# Altium integrated library Altera MAX 7000S.IntLib: 338 symbols (part 17 of 20)
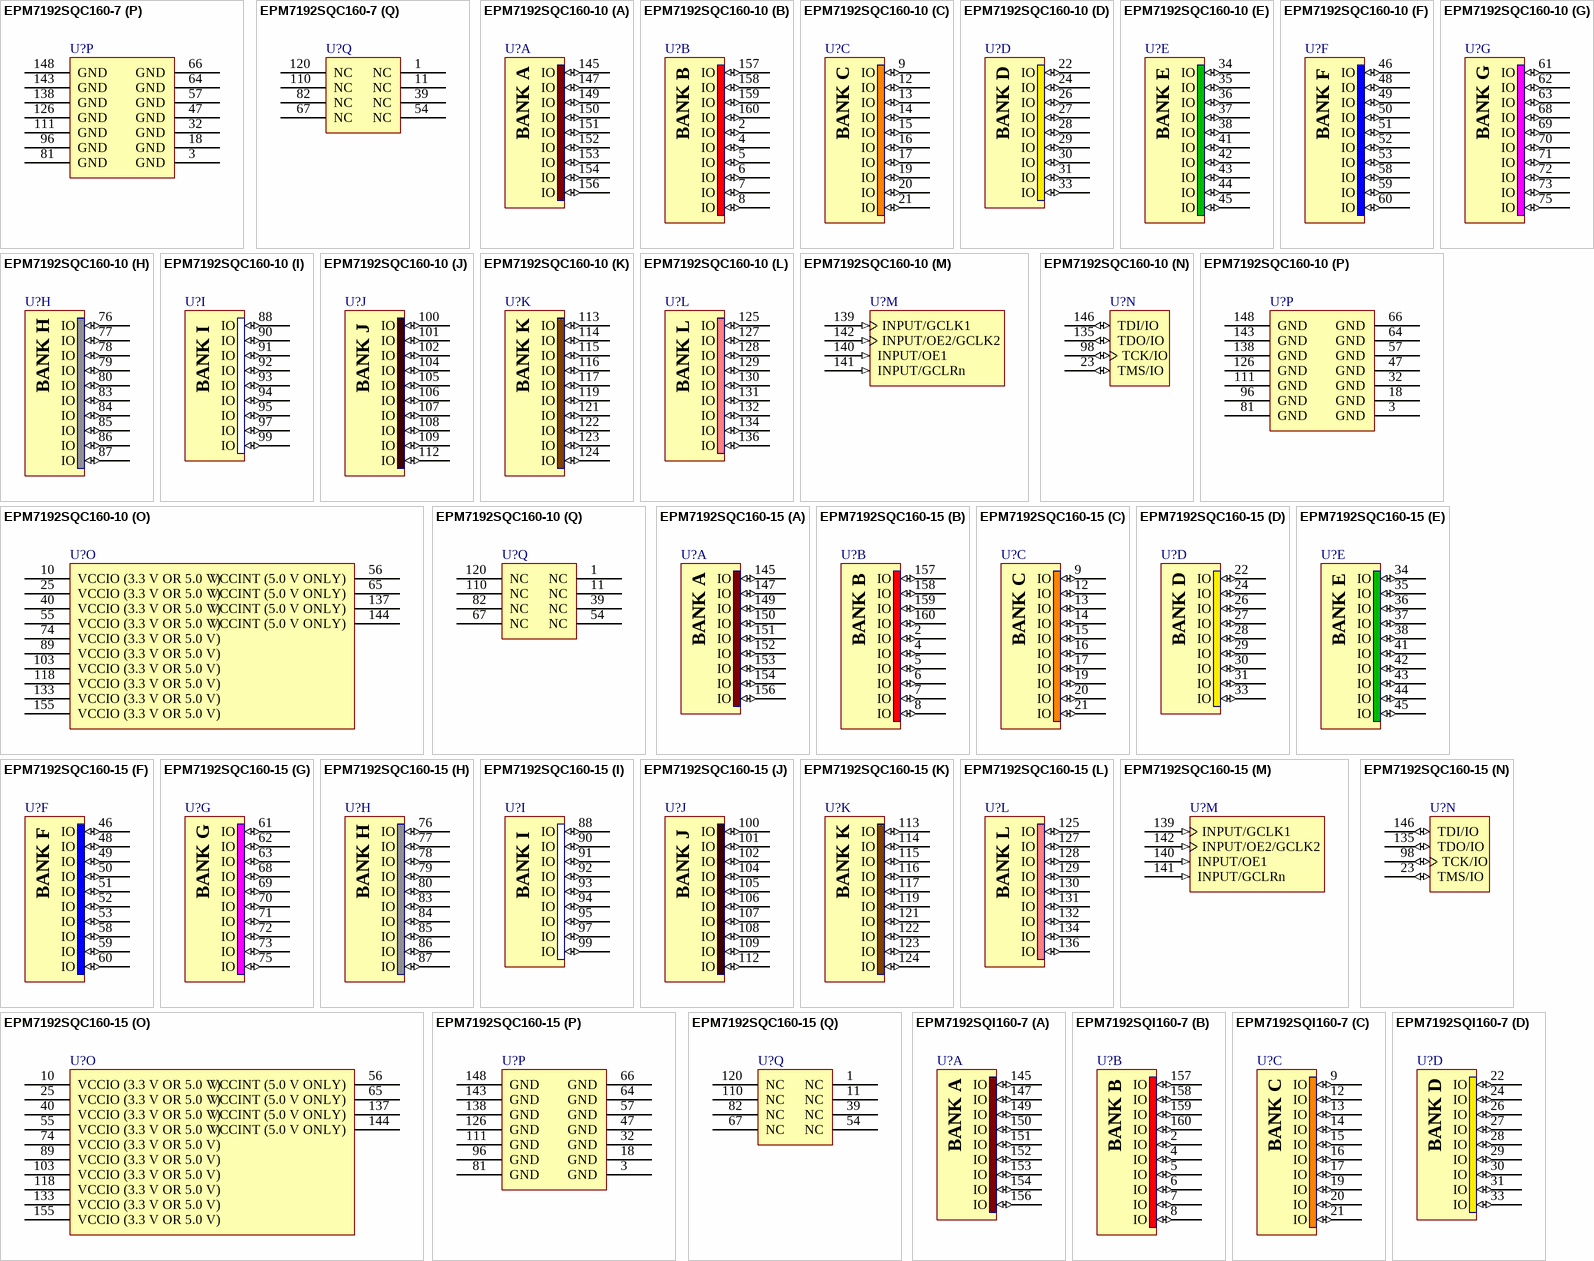
[diagram p120: symbols EPM7192SQC160-7 to EPM7192SQI160-7]

## EPM7192SQC160-15
designator U?
MAX 7000S 5V In-System Programmable CPLD, 192 Macrocells, 160-Pin PQFP, Speed Grade 15, Commercial Grade; Published: 24-Nov-2000; LatestRevisionDate: 13-Apr-2006; LatestRevisionNote: IPC-7351 Footprint Added.; DatasheetVersion: ver6.7, Sep-2005; PackageVersion: ver14.3, Jul-2006; PackageReference: PQFP160; Publisher: Altium Limited; PackageDescription: 160-Pin Plastic Quad Flat Pack (PFQP160); Supplier 1: Digi-Key; Supplier Part Number 1: 544-1216-ND; Code_JEDEC: MS-022-DD-1; Code_IPC: QFP65P3120X3120-160; ComponentLink1Description: Manufacturer Link; ComponentLink1URL: http://www.altera.com/products/devices/max7k/m7k-index.html; ComponentLink2Description: Datasheet; ComponentLink2URL: http://www.altera.com/literature/ds/m7000.pdf; ComponentLink3Description: Packaging Specification; ComponentLink3URL: http://www.altera.com/literature/ds/dspkg.pdf
footprint PQFP160_N (QFP, 160-Leads, Body 28x28mm, Pitch 0.65mm, IPC Medium Density)
footprint PQFP160_L (QFP, 160-Leads, Body 28x28mm, Pitch 0.65mm, IPC High Density)
footprint PQFP160_M (QFP, 160-Leads, Body 28x28mm, Pitch 0.65mm, IPC Low Density)
3D model EPM7192S-PQFP160 (160-Pin Plastic Quad Flat Pack (PFQP160))
signal-integrity model 7k (MAX 7000S)
part A pins: 145 IO (io), 147 IO (io), 149 IO (io), 150 IO (io), 151 IO (io), 152 IO (io), 153 IO (io), 154 IO (io), 156 IO (io)
part B pins: 2 IO (io), 4 IO (io), 5 IO (io), 6 IO (io), 7 IO (io), 8 IO (io), 157 IO (io), 158 IO (io), 159 IO (io), 160 IO (io)
part C pins: 9 IO (io), 12 IO (io), 13 IO (io), 14 IO (io), 15 IO (io), 16 IO (io), 17 IO (io), 19 IO (io), 20 IO (io), 21 IO (io)
part D pins: 22 IO (io), 24 IO (io), 26 IO (io), 27 IO (io), 28 IO (io), 29 IO (io), 30 IO (io), 31 IO (io), 33 IO (io)
part E pins: 34 IO (io), 35 IO (io), 36 IO (io), 37 IO (io), 38 IO (io), 41 IO (io), 42 IO (io), 43 IO (io), 44 IO (io), 45 IO (io)
part F pins: 46 IO (io), 48 IO (io), 49 IO (io), 50 IO (io), 51 IO (io), 52 IO (io), 53 IO (io), 58 IO (io), 59 IO (io), 60 IO (io)
part G pins: 61 IO (io), 62 IO (io), 63 IO (io), 68 IO (io), 69 IO (io), 70 IO (io), 71 IO (io), 72 IO (io), 73 IO (io), 75 IO (io)
part H pins: 76 IO (io), 77 IO (io), 78 IO (io), 79 IO (io), 80 IO (io), 83 IO (io), 84 IO (io), 85 IO (io), 86 IO (io), 87 IO (io)
part I pins: 88 IO (io), 90 IO (io), 91 IO (io), 92 IO (io), 93 IO (io), 94 IO (io), 95 IO (io), 97 IO (io), 99 IO (io)
part J pins: 100 IO (io), 101 IO (io), 102 IO (io), 104 IO (io), 105 IO (io), 106 IO (io), 107 IO (io), 108 IO (io), 109 IO (io), 112 IO (io)
part K pins: 113 IO (io), 114 IO (io), 115 IO (io), 116 IO (io), 117 IO (io), 119 IO (io), 121 IO (io), 122 IO (io), 123 IO (io), 124 IO (io)
part L pins: 125 IO (io), 127 IO (io), 128 IO (io), 129 IO (io), 130 IO (io), 131 IO (io), 132 IO (io), 134 IO (io), 136 IO (io)
part M pins: 139 INPUT/GCLK1 (in), 140 INPUT/OE1 (in), 141 INPUT/GCLRn (in), 142 INPUT/OE2/GCLK2 (in)
part N pins: 23 TMS/IO (io), 98 TCK/IO (io), 135 TDO/IO (io), 146 TDI/IO (io)
part O pins: 10 VCCIO (3.3 V OR 5.0 V) (power), 25 VCCIO (3.3 V OR 5.0 V) (power), 40 VCCIO (3.3 V OR 5.0 V) (power), 55 VCCIO (3.3 V OR 5.0 V) (power), 56 VCCINT (5.0 V ONLY) (power), 65 VCCINT (5.0 V ONLY) (power), 74 VCCIO (3.3 V OR 5.0 V) (power), 89 VCCIO (3.3 V OR 5.0 V) (power), 103 VCCIO (3.3 V OR 5.0 V) (power), 118 VCCIO (3.3 V OR 5.0 V) (power), 133 VCCIO (3.3 V OR 5.0 V) (power), 137 VCCINT (5.0 V ONLY) (power), 144 VCCINT (5.0 V ONLY) (power), 155 VCCIO (3.3 V OR 5.0 V) (power)
part P pins: 3 GND (power), 18 GND (power), 32 GND (power), 47 GND (power), 57 GND (power), 64 GND (power), 66 GND (power), 81 GND (power), 96 GND (power), 111 GND (power), 126 GND (power), 138 GND (power), 143 GND (power), 148 GND (power)
part Q pins: 1 NC, 11 NC, 39 NC, 54 NC, 67 NC, 82 NC, 110 NC, 120 NC
part A text: BANK A
part B text: BANK B
part C text: BANK C
part D text: BANK D
part E text: BANK E
part F text: BANK F
part G text: BANK G
part H text: BANK H
part I text: BANK I
part J text: BANK J
part K text: BANK K
part L text: BANK L

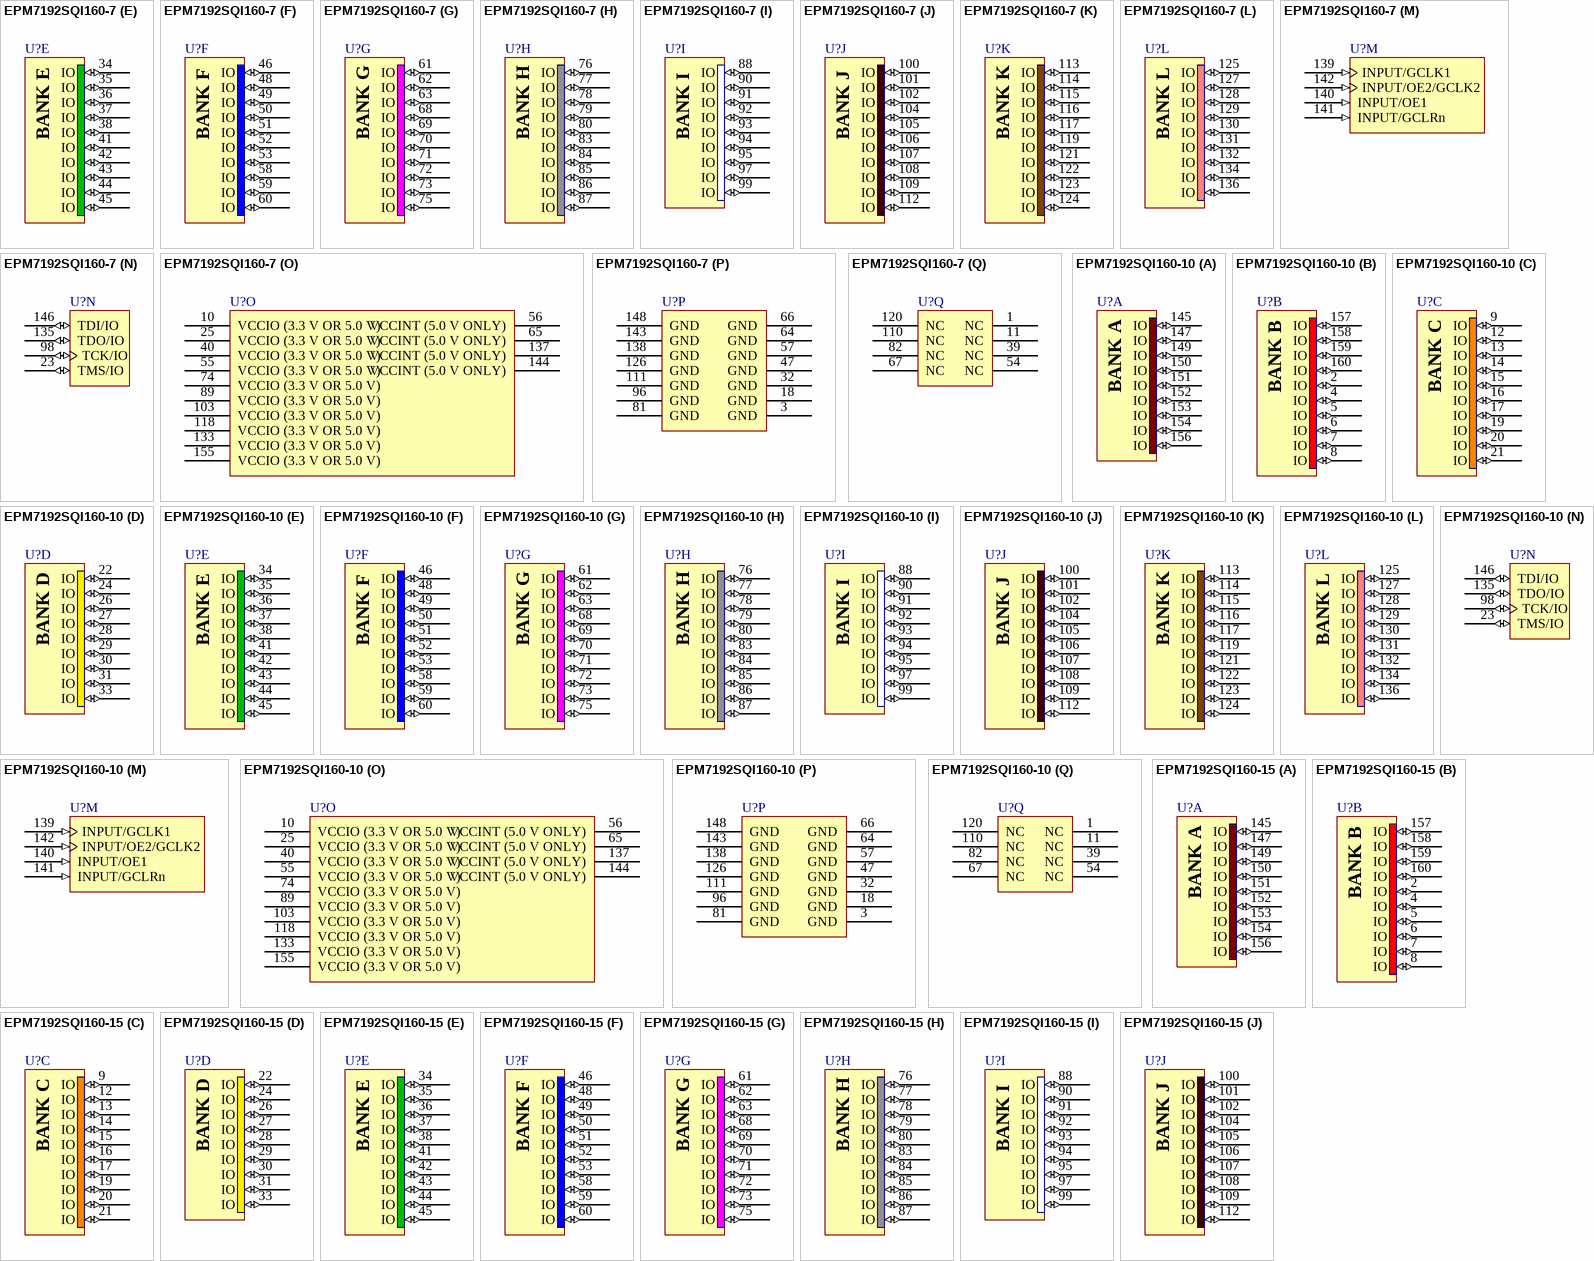
[diagram p85: symbols EPM7192SQI160-7 to EPM7192SQI160-15]

## EPM7192SQI160-7
designator U?
MAX 7000S 5V In-System Programmable CPLD, 192 Macrocells, 160-Pin PQFP, Speed Grade 7, Industrial Grade; Published: 17-Sep-2003; LatestRevisionDate: 13-Apr-2006; LatestRevisionNote: IPC-7351 Footprint Added.; DatasheetVersion: ver6.7, Sep-2005; PackageVersion: ver14.3, Jul-2006; PackageReference: PQFP160; Publisher: Altium Limited; PackageDescription: 160-Pin Plastic Quad Flat Pack (PFQP160); Code_JEDEC: MS-022-DD-1; Code_IPC: QFP65P3120X3120-160; ComponentLink1Description: Manufacturer Link; ComponentLink1URL: http://www.altera.com/products/devices/max7k/m7k-index.html; ComponentLink2Description: Datasheet; ComponentLink2URL: http://www.altera.com/literature/ds/m7000.pdf; ComponentLink3Description: Packaging Specification; ComponentLink3URL: http://www.altera.com/literature/ds/dspkg.pdf
footprint PQFP160_N (QFP, 160-Leads, Body 28x28mm, Pitch 0.65mm, IPC Medium Density)
footprint PQFP160_L (QFP, 160-Leads, Body 28x28mm, Pitch 0.65mm, IPC High Density)
footprint PQFP160_M (QFP, 160-Leads, Body 28x28mm, Pitch 0.65mm, IPC Low Density)
3D model EPM7192S-PQFP160 (160-Pin Plastic Quad Flat Pack (PFQP160))
signal-integrity model 7k (MAX 7000S)
part A pins: 145 IO (io), 147 IO (io), 149 IO (io), 150 IO (io), 151 IO (io), 152 IO (io), 153 IO (io), 154 IO (io), 156 IO (io)
part B pins: 2 IO (io), 4 IO (io), 5 IO (io), 6 IO (io), 7 IO (io), 8 IO (io), 157 IO (io), 158 IO (io), 159 IO (io), 160 IO (io)
part C pins: 9 IO (io), 12 IO (io), 13 IO (io), 14 IO (io), 15 IO (io), 16 IO (io), 17 IO (io), 19 IO (io), 20 IO (io), 21 IO (io)
part D pins: 22 IO (io), 24 IO (io), 26 IO (io), 27 IO (io), 28 IO (io), 29 IO (io), 30 IO (io), 31 IO (io), 33 IO (io)
part E pins: 34 IO (io), 35 IO (io), 36 IO (io), 37 IO (io), 38 IO (io), 41 IO (io), 42 IO (io), 43 IO (io), 44 IO (io), 45 IO (io)
part F pins: 46 IO (io), 48 IO (io), 49 IO (io), 50 IO (io), 51 IO (io), 52 IO (io), 53 IO (io), 58 IO (io), 59 IO (io), 60 IO (io)
part G pins: 61 IO (io), 62 IO (io), 63 IO (io), 68 IO (io), 69 IO (io), 70 IO (io), 71 IO (io), 72 IO (io), 73 IO (io), 75 IO (io)
part H pins: 76 IO (io), 77 IO (io), 78 IO (io), 79 IO (io), 80 IO (io), 83 IO (io), 84 IO (io), 85 IO (io), 86 IO (io), 87 IO (io)
part I pins: 88 IO (io), 90 IO (io), 91 IO (io), 92 IO (io), 93 IO (io), 94 IO (io), 95 IO (io), 97 IO (io), 99 IO (io)
part J pins: 100 IO (io), 101 IO (io), 102 IO (io), 104 IO (io), 105 IO (io), 106 IO (io), 107 IO (io), 108 IO (io), 109 IO (io), 112 IO (io)
part K pins: 113 IO (io), 114 IO (io), 115 IO (io), 116 IO (io), 117 IO (io), 119 IO (io), 121 IO (io), 122 IO (io), 123 IO (io), 124 IO (io)
part L pins: 125 IO (io), 127 IO (io), 128 IO (io), 129 IO (io), 130 IO (io), 131 IO (io), 132 IO (io), 134 IO (io), 136 IO (io)
part M pins: 139 INPUT/GCLK1 (in), 140 INPUT/OE1 (in), 141 INPUT/GCLRn (in), 142 INPUT/OE2/GCLK2 (in)
part N pins: 23 TMS/IO (io), 98 TCK/IO (io), 135 TDO/IO (io), 146 TDI/IO (io)
part O pins: 10 VCCIO (3.3 V OR 5.0 V) (power), 25 VCCIO (3.3 V OR 5.0 V) (power), 40 VCCIO (3.3 V OR 5.0 V) (power), 55 VCCIO (3.3 V OR 5.0 V) (power), 56 VCCINT (5.0 V ONLY) (power), 65 VCCINT (5.0 V ONLY) (power), 74 VCCIO (3.3 V OR 5.0 V) (power), 89 VCCIO (3.3 V OR 5.0 V) (power), 103 VCCIO (3.3 V OR 5.0 V) (power), 118 VCCIO (3.3 V OR 5.0 V) (power), 133 VCCIO (3.3 V OR 5.0 V) (power), 137 VCCINT (5.0 V ONLY) (power), 144 VCCINT (5.0 V ONLY) (power), 155 VCCIO (3.3 V OR 5.0 V) (power)
part P pins: 3 GND (power), 18 GND (power), 32 GND (power), 47 GND (power), 57 GND (power), 64 GND (power), 66 GND (power), 81 GND (power), 96 GND (power), 111 GND (power), 126 GND (power), 138 GND (power), 143 GND (power), 148 GND (power)
part Q pins: 1 NC, 11 NC, 39 NC, 54 NC, 67 NC, 82 NC, 110 NC, 120 NC
part A text: BANK A
part B text: BANK B
part C text: BANK C
part D text: BANK D
part E text: BANK E
part F text: BANK F
part G text: BANK G
part H text: BANK H
part I text: BANK I
part J text: BANK J
part K text: BANK K
part L text: BANK L

## EPM7192SQI160-10
designator U?
MAX 7000S 5V In-System Programmable CPLD, 192 Macrocells, 160-Pin PQFP, Speed Grade 10, Industrial Grade; Published: 17-Jul-2002; LatestRevisionDate: 13-Apr-2006; LatestRevisionNote: IPC-7351 Footprint Added.; DatasheetVersion: ver6.7, Sep-2005; PackageVersion: ver14.3, Jul-2006; PackageReference: PQFP160; Publisher: Altium Limited; PackageDescription: 160-Pin Plastic Quad Flat Pack (PFQP160); Supplier 1: Digi-Key; Supplier Part Number 1: 544-2343-ND; Code_JEDEC: MS-022-DD-1; Code_IPC: QFP65P3120X3120-160; ComponentLink1Description: Manufacturer Link; ComponentLink1URL: http://www.altera.com/products/devices/max7k/m7k-index.html; ComponentLink2Description: Datasheet; ComponentLink2URL: http://www.altera.com/literature/ds/m7000.pdf; ComponentLink3Description: Packaging Specification; ComponentLink3URL: http://www.altera.com/literature/ds/dspkg.pdf
footprint PQFP160_N (QFP, 160-Leads, Body 28x28mm, Pitch 0.65mm, IPC Medium Density)
footprint PQFP160_L (QFP, 160-Leads, Body 28x28mm, Pitch 0.65mm, IPC High Density)
footprint PQFP160_M (QFP, 160-Leads, Body 28x28mm, Pitch 0.65mm, IPC Low Density)
3D model EPM7192S-PQFP160 (160-Pin Plastic Quad Flat Pack (PFQP160))
signal-integrity model 7k (MAX 7000S)
part A pins: 145 IO (io), 147 IO (io), 149 IO (io), 150 IO (io), 151 IO (io), 152 IO (io), 153 IO (io), 154 IO (io), 156 IO (io)
part B pins: 2 IO (io), 4 IO (io), 5 IO (io), 6 IO (io), 7 IO (io), 8 IO (io), 157 IO (io), 158 IO (io), 159 IO (io), 160 IO (io)
part C pins: 9 IO (io), 12 IO (io), 13 IO (io), 14 IO (io), 15 IO (io), 16 IO (io), 17 IO (io), 19 IO (io), 20 IO (io), 21 IO (io)
part D pins: 22 IO (io), 24 IO (io), 26 IO (io), 27 IO (io), 28 IO (io), 29 IO (io), 30 IO (io), 31 IO (io), 33 IO (io)
part E pins: 34 IO (io), 35 IO (io), 36 IO (io), 37 IO (io), 38 IO (io), 41 IO (io), 42 IO (io), 43 IO (io), 44 IO (io), 45 IO (io)
part F pins: 46 IO (io), 48 IO (io), 49 IO (io), 50 IO (io), 51 IO (io), 52 IO (io), 53 IO (io), 58 IO (io), 59 IO (io), 60 IO (io)
part G pins: 61 IO (io), 62 IO (io), 63 IO (io), 68 IO (io), 69 IO (io), 70 IO (io), 71 IO (io), 72 IO (io), 73 IO (io), 75 IO (io)
part H pins: 76 IO (io), 77 IO (io), 78 IO (io), 79 IO (io), 80 IO (io), 83 IO (io), 84 IO (io), 85 IO (io), 86 IO (io), 87 IO (io)
part I pins: 88 IO (io), 90 IO (io), 91 IO (io), 92 IO (io), 93 IO (io), 94 IO (io), 95 IO (io), 97 IO (io), 99 IO (io)
part J pins: 100 IO (io), 101 IO (io), 102 IO (io), 104 IO (io), 105 IO (io), 106 IO (io), 107 IO (io), 108 IO (io), 109 IO (io), 112 IO (io)
part K pins: 113 IO (io), 114 IO (io), 115 IO (io), 116 IO (io), 117 IO (io), 119 IO (io), 121 IO (io), 122 IO (io), 123 IO (io), 124 IO (io)
part L pins: 125 IO (io), 127 IO (io), 128 IO (io), 129 IO (io), 130 IO (io), 131 IO (io), 132 IO (io), 134 IO (io), 136 IO (io)
part M pins: 139 INPUT/GCLK1 (in), 140 INPUT/OE1 (in), 141 INPUT/GCLRn (in), 142 INPUT/OE2/GCLK2 (in)
part N pins: 23 TMS/IO (io), 98 TCK/IO (io), 135 TDO/IO (io), 146 TDI/IO (io)
part O pins: 10 VCCIO (3.3 V OR 5.0 V) (power), 25 VCCIO (3.3 V OR 5.0 V) (power), 40 VCCIO (3.3 V OR 5.0 V) (power), 55 VCCIO (3.3 V OR 5.0 V) (power), 56 VCCINT (5.0 V ONLY) (power), 65 VCCINT (5.0 V ONLY) (power), 74 VCCIO (3.3 V OR 5.0 V) (power), 89 VCCIO (3.3 V OR 5.0 V) (power), 103 VCCIO (3.3 V OR 5.0 V) (power), 118 VCCIO (3.3 V OR 5.0 V) (power), 133 VCCIO (3.3 V OR 5.0 V) (power), 137 VCCINT (5.0 V ONLY) (power), 144 VCCINT (5.0 V ONLY) (power), 155 VCCIO (3.3 V OR 5.0 V) (power)
part P pins: 3 GND (power), 18 GND (power), 32 GND (power), 47 GND (power), 57 GND (power), 64 GND (power), 66 GND (power), 81 GND (power), 96 GND (power), 111 GND (power), 126 GND (power), 138 GND (power), 143 GND (power), 148 GND (power)
part Q pins: 1 NC, 11 NC, 39 NC, 54 NC, 67 NC, 82 NC, 110 NC, 120 NC
part A text: BANK A
part B text: BANK B
part C text: BANK C
part D text: BANK D
part E text: BANK E
part F text: BANK F
part G text: BANK G
part H text: BANK H
part I text: BANK I
part J text: BANK J
part K text: BANK K
part L text: BANK L

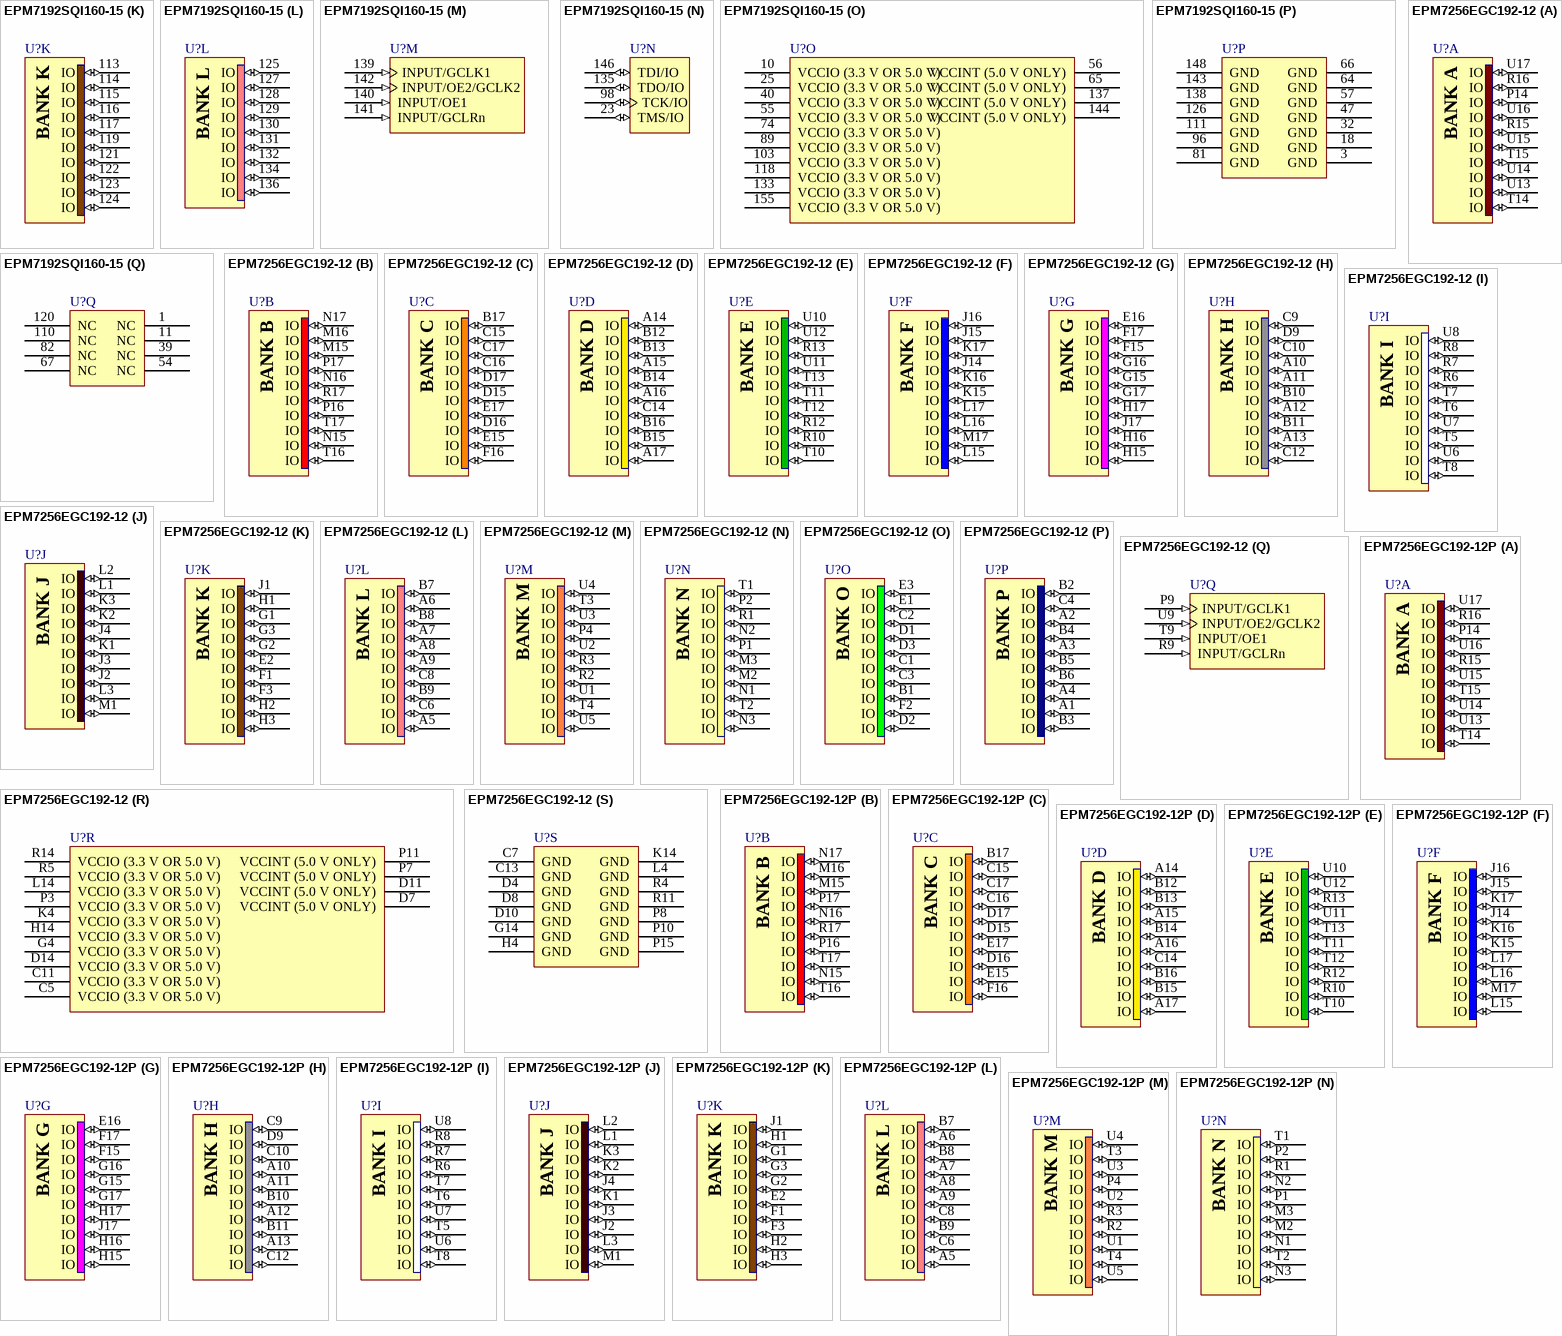
[diagram p86: symbols EPM7192SQI160-15 to EPM7256EGC192-12P]

## EPM7192SQI160-15
designator U?
MAX 7000S 5V In-System Programmable CPLD, 192 Macrocells, 160-Pin PQFP, Speed Grade 15, Industrial Grade; Published: 24-Nov-2000; LatestRevisionDate: 13-Apr-2006; LatestRevisionNote: IPC-7351 Footprint Added.; DatasheetVersion: ver6.7, Sep-2005; PackageVersion: ver14.3, Jul-2006; PackageReference: PQFP160; Publisher: Altium Limited; PackageDescription: 160-Pin Plastic Quad Flat Pack (PFQP160); Code_JEDEC: MS-022-DD-1; Code_IPC: QFP65P3120X3120-160; ComponentLink1Description: Manufacturer Link; ComponentLink1URL: http://www.altera.com/products/devices/max7k/m7k-index.html; ComponentLink2Description: Datasheet; ComponentLink2URL: http://www.altera.com/literature/ds/m7000.pdf; ComponentLink3Description: Packaging Specification; ComponentLink3URL: http://www.altera.com/literature/ds/dspkg.pdf
footprint PQFP160_N (QFP, 160-Leads, Body 28x28mm, Pitch 0.65mm, IPC Medium Density)
footprint PQFP160_L (QFP, 160-Leads, Body 28x28mm, Pitch 0.65mm, IPC High Density)
footprint PQFP160_M (QFP, 160-Leads, Body 28x28mm, Pitch 0.65mm, IPC Low Density)
3D model EPM7192S-PQFP160 (160-Pin Plastic Quad Flat Pack (PFQP160))
signal-integrity model 7k (MAX 7000S)
part A pins: 145 IO (io), 147 IO (io), 149 IO (io), 150 IO (io), 151 IO (io), 152 IO (io), 153 IO (io), 154 IO (io), 156 IO (io)
part B pins: 2 IO (io), 4 IO (io), 5 IO (io), 6 IO (io), 7 IO (io), 8 IO (io), 157 IO (io), 158 IO (io), 159 IO (io), 160 IO (io)
part C pins: 9 IO (io), 12 IO (io), 13 IO (io), 14 IO (io), 15 IO (io), 16 IO (io), 17 IO (io), 19 IO (io), 20 IO (io), 21 IO (io)
part D pins: 22 IO (io), 24 IO (io), 26 IO (io), 27 IO (io), 28 IO (io), 29 IO (io), 30 IO (io), 31 IO (io), 33 IO (io)
part E pins: 34 IO (io), 35 IO (io), 36 IO (io), 37 IO (io), 38 IO (io), 41 IO (io), 42 IO (io), 43 IO (io), 44 IO (io), 45 IO (io)
part F pins: 46 IO (io), 48 IO (io), 49 IO (io), 50 IO (io), 51 IO (io), 52 IO (io), 53 IO (io), 58 IO (io), 59 IO (io), 60 IO (io)
part G pins: 61 IO (io), 62 IO (io), 63 IO (io), 68 IO (io), 69 IO (io), 70 IO (io), 71 IO (io), 72 IO (io), 73 IO (io), 75 IO (io)
part H pins: 76 IO (io), 77 IO (io), 78 IO (io), 79 IO (io), 80 IO (io), 83 IO (io), 84 IO (io), 85 IO (io), 86 IO (io), 87 IO (io)
part I pins: 88 IO (io), 90 IO (io), 91 IO (io), 92 IO (io), 93 IO (io), 94 IO (io), 95 IO (io), 97 IO (io), 99 IO (io)
part J pins: 100 IO (io), 101 IO (io), 102 IO (io), 104 IO (io), 105 IO (io), 106 IO (io), 107 IO (io), 108 IO (io), 109 IO (io), 112 IO (io)
part K pins: 113 IO (io), 114 IO (io), 115 IO (io), 116 IO (io), 117 IO (io), 119 IO (io), 121 IO (io), 122 IO (io), 123 IO (io), 124 IO (io)
part L pins: 125 IO (io), 127 IO (io), 128 IO (io), 129 IO (io), 130 IO (io), 131 IO (io), 132 IO (io), 134 IO (io), 136 IO (io)
part M pins: 139 INPUT/GCLK1 (in), 140 INPUT/OE1 (in), 141 INPUT/GCLRn (in), 142 INPUT/OE2/GCLK2 (in)
part N pins: 23 TMS/IO (io), 98 TCK/IO (io), 135 TDO/IO (io), 146 TDI/IO (io)
part O pins: 10 VCCIO (3.3 V OR 5.0 V) (power), 25 VCCIO (3.3 V OR 5.0 V) (power), 40 VCCIO (3.3 V OR 5.0 V) (power), 55 VCCIO (3.3 V OR 5.0 V) (power), 56 VCCINT (5.0 V ONLY) (power), 65 VCCINT (5.0 V ONLY) (power), 74 VCCIO (3.3 V OR 5.0 V) (power), 89 VCCIO (3.3 V OR 5.0 V) (power), 103 VCCIO (3.3 V OR 5.0 V) (power), 118 VCCIO (3.3 V OR 5.0 V) (power), 133 VCCIO (3.3 V OR 5.0 V) (power), 137 VCCINT (5.0 V ONLY) (power), 144 VCCINT (5.0 V ONLY) (power), 155 VCCIO (3.3 V OR 5.0 V) (power)
part P pins: 3 GND (power), 18 GND (power), 32 GND (power), 47 GND (power), 57 GND (power), 64 GND (power), 66 GND (power), 81 GND (power), 96 GND (power), 111 GND (power), 126 GND (power), 138 GND (power), 143 GND (power), 148 GND (power)
part Q pins: 1 NC, 11 NC, 39 NC, 54 NC, 67 NC, 82 NC, 110 NC, 120 NC
part A text: BANK A
part B text: BANK B
part C text: BANK C
part D text: BANK D
part E text: BANK E
part F text: BANK F
part G text: BANK G
part H text: BANK H
part I text: BANK I
part J text: BANK J
part K text: BANK K
part L text: BANK L

## EPM7256EGC192-12
designator U?
MAX 7000E 5V CPLD, 256 Macrocells, 192-Pin PGA, Speed Grade 12, Commercial Grade; Published: 24-Nov-2000; LatestRevisionDate: 16-Dec-2005; LatestRevisionNote: Banks placed in parts.; DatasheetVersion: ver6.7, Sep-2005; PackageVersion: ver14.3, Jul-2006; PackageReference: PGA192; Publisher: Altium Limited; PackageDescription: 192-Pin Ceramic Pin Grid Array (PGA192); Code_JEDEC: MO-067-AJ; ComponentLink1Description: Manufacturer Link; ComponentLink1URL: http://www.altera.com/products/devices/max7k/m7k-index.html; ComponentLink2Description: Datasheet; ComponentLink2URL: http://www.altera.com/literature/ds/m7000.pdf; ComponentLink3Description: Packaging Specification; ComponentLink3URL: http://www.altera.com/literature/ds/dspkg.pdf
footprint PGA192 (PGA, 192-Leads, Body 44.7x44.7mm, Pitch 2.54mm)
3D model EPM7256E-PGA192 (192-Pin Ceramic Pin Grid Array (PGA192))
signal-integrity model 7k (MAX 7000S)
part A pins: P14 IO (io), R15 IO (io), R16 IO (io), T14 IO (io), T15 IO (io), U13 IO (io), U14 IO (io), U15 IO (io), U16 IO (io), U17 IO (io)
part B pins: M15 IO (io), M16 IO (io), N15 IO (io), N16 IO (io), N17 IO (io), P16 IO (io), P17 IO (io), R17 IO (io), T16 IO (io), T17 IO (io)
part C pins: B17 IO (io), C15 IO (io), C16 IO (io), C17 IO (io), D15 IO (io), D16 IO (io), D17 IO (io), E15 IO (io), E17 IO (io), F16 IO (io)
part D pins: A14 IO (io), A15 IO (io), A16 IO (io), A17 IO (io), B12 IO (io), B13 IO (io), B14 IO (io), B15 IO (io), B16 IO (io), C14 IO (io)
part E pins: R10 IO (io), R12 IO (io), R13 IO (io), T10 IO (io), T11 IO (io), T12 IO (io), T13 IO (io), U10 IO (io), U11 IO (io), U12 IO (io)
part F pins: J14 IO (io), J15 IO (io), J16 IO (io), K15 IO (io), K16 IO (io), K17 IO (io), L15 IO (io), L16 IO (io), L17 IO (io), M17 IO (io)
part G pins: E16 IO (io), F15 IO (io), F17 IO (io), G15 IO (io), G16 IO (io), G17 IO (io), H15 IO (io), H16 IO (io), H17 IO (io), J17 IO (io)
part H pins: A10 IO (io), A11 IO (io), A12 IO (io), A13 IO (io), B10 IO (io), B11 IO (io), C9 IO (io), C10 IO (io), C12 IO (io), D9 IO (io)
part I pins: R6 IO (io), R7 IO (io), R8 IO (io), T5 IO (io), T6 IO (io), T7 IO (io), T8 IO (io), U6 IO (io), U7 IO (io), U8 IO (io)
part J pins: J2 IO (io), J3 IO (io), J4 IO (io), K1 IO (io), K2 IO (io), K3 IO (io), L1 IO (io), L2 IO (io), L3 IO (io), M1 IO (io)
part K pins: E2 IO (io), F1 IO (io), F3 IO (io), G1 IO (io), G2 IO (io), G3 IO (io), H1 IO (io), H2 IO (io), H3 IO (io), J1 IO (io)
part L pins: A5 IO (io), A6 IO (io), A7 IO (io), A8 IO (io), A9 IO (io), B7 IO (io), B8 IO (io), B9 IO (io), C6 IO (io), C8 IO (io)
part M pins: P4 IO (io), R2 IO (io), R3 IO (io), T3 IO (io), T4 IO (io), U1 IO (io), U2 IO (io), U3 IO (io), U4 IO (io), U5 IO (io)
part N pins: M2 IO (io), M3 IO (io), N1 IO (io), N2 IO (io), N3 IO (io), P1 IO (io), P2 IO (io), R1 IO (io), T1 IO (io), T2 IO (io)
part O pins: B1 IO (io), C1 IO (io), C2 IO (io), C3 IO (io), D1 IO (io), D2 IO (io), D3 IO (io), E1 IO (io), E3 IO (io), F2 IO (io)
part P pins: A1 IO (io), A2 IO (io), A3 IO (io), A4 IO (io), B2 IO (io), B3 IO (io), B4 IO (io), B5 IO (io), B6 IO (io), C4 IO (io)
part Q pins: P9 INPUT/GCLK1 (in), R9 INPUT/GCLRn (in), T9 INPUT/OE1 (in), U9 INPUT/OE2/GCLK2 (in)
part R pins: C5 VCCIO (3.3 V OR 5.0 V) (power), C11 VCCIO (3.3 V OR 5.0 V) (power), D7 VCCINT (5.0 V ONLY) (power), D11 VCCINT (5.0 V ONLY) (power), D14 VCCIO (3.3 V OR 5.0 V) (power), G4 VCCIO (3.3 V OR 5.0 V) (power), H14 VCCIO (3.3 V OR 5.0 V) (power), K4 VCCIO (3.3 V OR 5.0 V) (power), L14 VCCIO (3.3 V OR 5.0 V) (power), P3 VCCIO (3.3 V OR 5.0 V) (power), P7 VCCINT (5.0 V ONLY) (power), P11 VCCINT (5.0 V ONLY) (power), R5 VCCIO (3.3 V OR 5.0 V) (power), R14 VCCIO (3.3 V OR 5.0 V) (power)
part S pins: C7 GND (power), C13 GND (power), D4 GND (power), D8 GND (power), D10 GND (power), G14 GND (power), H4 GND (power), K14 GND (power), L4 GND (power), P8 GND (power), P10 GND (power), P15 GND (power), R4 GND (power), R11 GND (power)
part A text: BANK A
part B text: BANK B
part C text: BANK C
part D text: BANK D
part E text: BANK E
part F text: BANK F
part G text: BANK G
part H text: BANK H
part I text: BANK I
part J text: BANK J
part K text: BANK K
part L text: BANK L
part M text: BANK M
part N text: BANK N
part O text: BANK O
part P text: BANK P

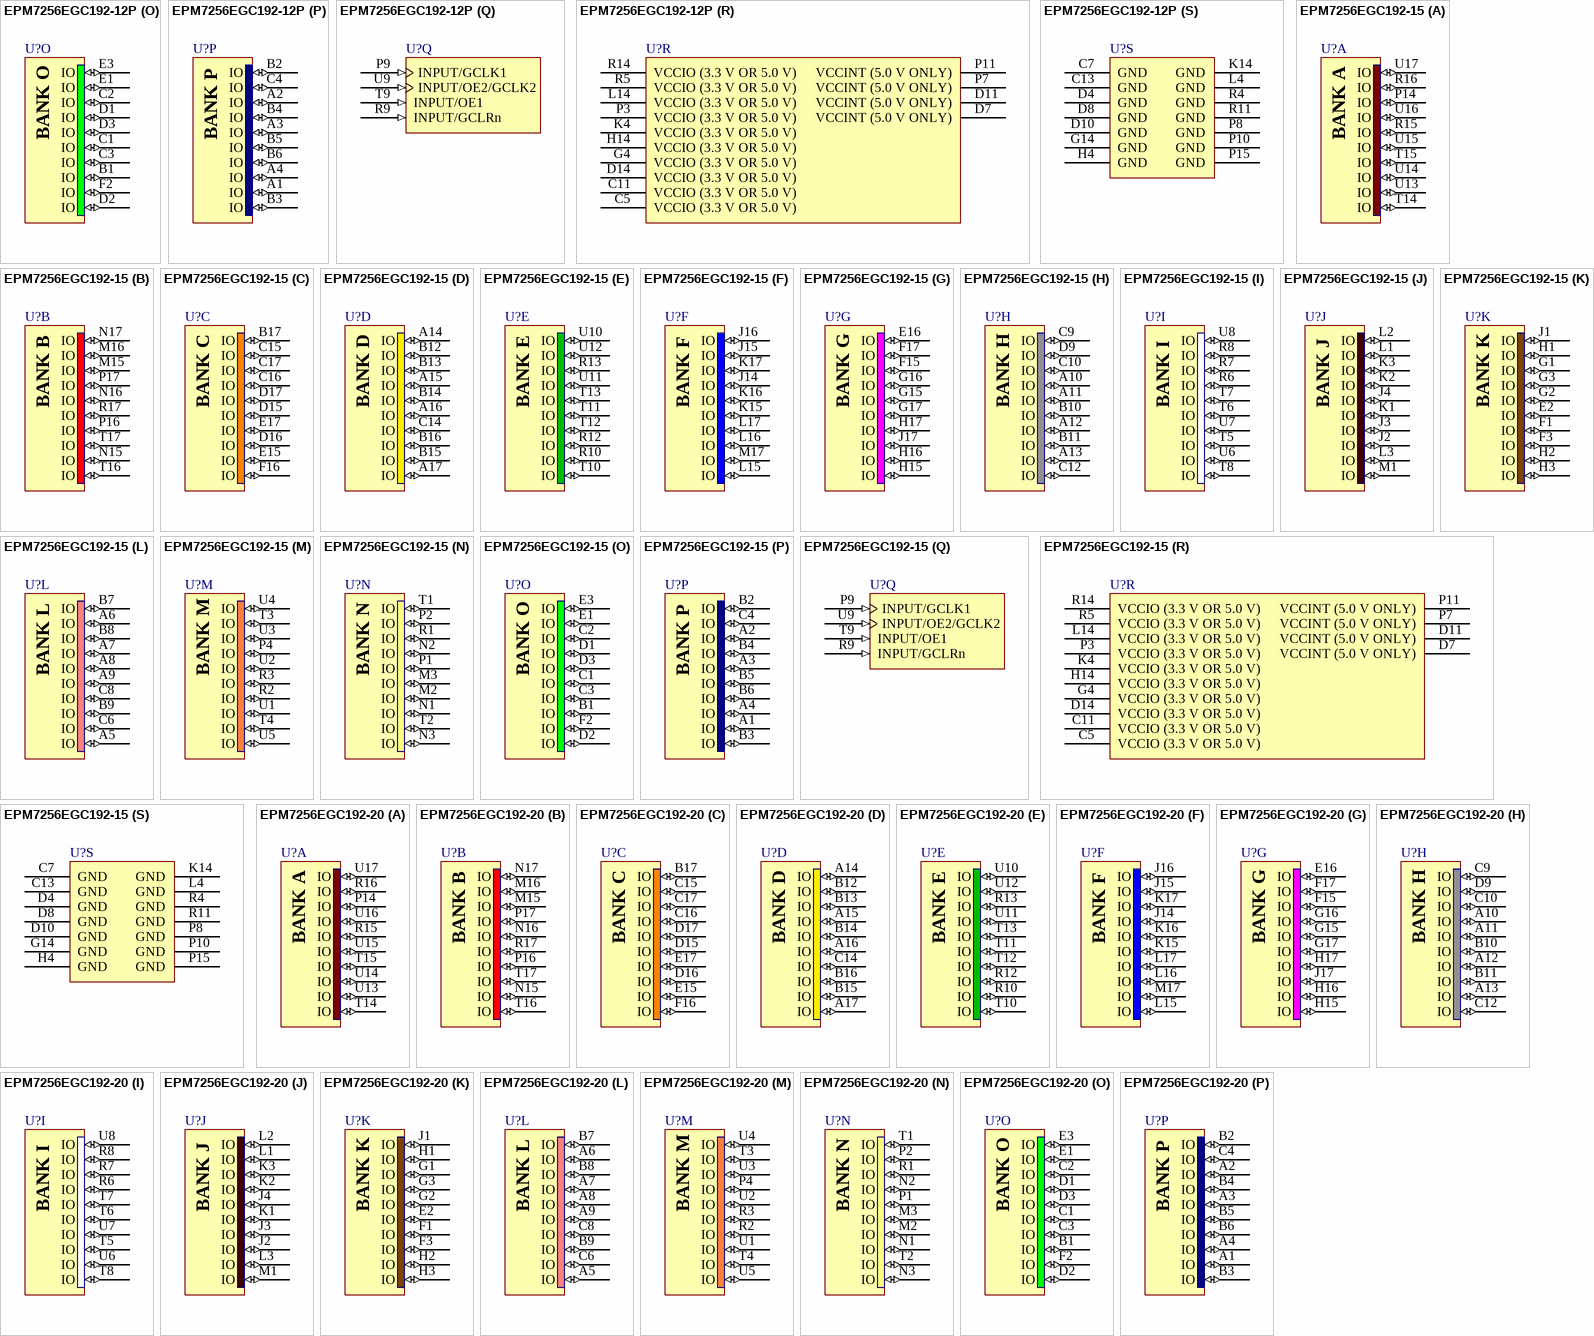
[diagram p87: symbols EPM7256EGC192-12P to EPM7256EGC192-20]

## EPM7256EGC192-12P
designator U?
MAX 7000E 5V CPLD, 256 Macrocells, 192-Pin PGA, Speed Grade 12P, Commercial Grade; Published: 24-Nov-2000; LatestRevisionDate: 16-Dec-2005; LatestRevisionNote: Banks placed in parts.; DatasheetVersion: ver6.7, Sep-2005; PackageVersion: ver14.3, Jul-2006; PackageReference: PGA192; Publisher: Altium Limited; PackageDescription: 192-Pin Ceramic Pin Grid Array (PGA192); Code_JEDEC: MO-067-AJ; ComponentLink1Description: Manufacturer Link; ComponentLink1URL: http://www.altera.com/products/devices/max7k/m7k-index.html; ComponentLink2Description: Datasheet; ComponentLink2URL: http://www.altera.com/literature/ds/m7000.pdf; ComponentLink3Description: Packaging Specification; ComponentLink3URL: http://www.altera.com/literature/ds/dspkg.pdf
footprint PGA192 (PGA, 192-Leads, Body 44.7x44.7mm, Pitch 2.54mm)
3D model EPM7256E-PGA192 (192-Pin Ceramic Pin Grid Array (PGA192))
signal-integrity model 7k (MAX 7000S)
part A pins: P14 IO (io), R15 IO (io), R16 IO (io), T14 IO (io), T15 IO (io), U13 IO (io), U14 IO (io), U15 IO (io), U16 IO (io), U17 IO (io)
part B pins: M15 IO (io), M16 IO (io), N15 IO (io), N16 IO (io), N17 IO (io), P16 IO (io), P17 IO (io), R17 IO (io), T16 IO (io), T17 IO (io)
part C pins: B17 IO (io), C15 IO (io), C16 IO (io), C17 IO (io), D15 IO (io), D16 IO (io), D17 IO (io), E15 IO (io), E17 IO (io), F16 IO (io)
part D pins: A14 IO (io), A15 IO (io), A16 IO (io), A17 IO (io), B12 IO (io), B13 IO (io), B14 IO (io), B15 IO (io), B16 IO (io), C14 IO (io)
part E pins: R10 IO (io), R12 IO (io), R13 IO (io), T10 IO (io), T11 IO (io), T12 IO (io), T13 IO (io), U10 IO (io), U11 IO (io), U12 IO (io)
part F pins: J14 IO (io), J15 IO (io), J16 IO (io), K15 IO (io), K16 IO (io), K17 IO (io), L15 IO (io), L16 IO (io), L17 IO (io), M17 IO (io)
part G pins: E16 IO (io), F15 IO (io), F17 IO (io), G15 IO (io), G16 IO (io), G17 IO (io), H15 IO (io), H16 IO (io), H17 IO (io), J17 IO (io)
part H pins: A10 IO (io), A11 IO (io), A12 IO (io), A13 IO (io), B10 IO (io), B11 IO (io), C9 IO (io), C10 IO (io), C12 IO (io), D9 IO (io)
part I pins: R6 IO (io), R7 IO (io), R8 IO (io), T5 IO (io), T6 IO (io), T7 IO (io), T8 IO (io), U6 IO (io), U7 IO (io), U8 IO (io)
part J pins: J2 IO (io), J3 IO (io), J4 IO (io), K1 IO (io), K2 IO (io), K3 IO (io), L1 IO (io), L2 IO (io), L3 IO (io), M1 IO (io)
part K pins: E2 IO (io), F1 IO (io), F3 IO (io), G1 IO (io), G2 IO (io), G3 IO (io), H1 IO (io), H2 IO (io), H3 IO (io), J1 IO (io)
part L pins: A5 IO (io), A6 IO (io), A7 IO (io), A8 IO (io), A9 IO (io), B7 IO (io), B8 IO (io), B9 IO (io), C6 IO (io), C8 IO (io)
part M pins: P4 IO (io), R2 IO (io), R3 IO (io), T3 IO (io), T4 IO (io), U1 IO (io), U2 IO (io), U3 IO (io), U4 IO (io), U5 IO (io)
part N pins: M2 IO (io), M3 IO (io), N1 IO (io), N2 IO (io), N3 IO (io), P1 IO (io), P2 IO (io), R1 IO (io), T1 IO (io), T2 IO (io)
part O pins: B1 IO (io), C1 IO (io), C2 IO (io), C3 IO (io), D1 IO (io), D2 IO (io), D3 IO (io), E1 IO (io), E3 IO (io), F2 IO (io)
part P pins: A1 IO (io), A2 IO (io), A3 IO (io), A4 IO (io), B2 IO (io), B3 IO (io), B4 IO (io), B5 IO (io), B6 IO (io), C4 IO (io)
part Q pins: P9 INPUT/GCLK1 (in), R9 INPUT/GCLRn (in), T9 INPUT/OE1 (in), U9 INPUT/OE2/GCLK2 (in)
part R pins: C5 VCCIO (3.3 V OR 5.0 V) (power), C11 VCCIO (3.3 V OR 5.0 V) (power), D7 VCCINT (5.0 V ONLY) (power), D11 VCCINT (5.0 V ONLY) (power), D14 VCCIO (3.3 V OR 5.0 V) (power), G4 VCCIO (3.3 V OR 5.0 V) (power), H14 VCCIO (3.3 V OR 5.0 V) (power), K4 VCCIO (3.3 V OR 5.0 V) (power), L14 VCCIO (3.3 V OR 5.0 V) (power), P3 VCCIO (3.3 V OR 5.0 V) (power), P7 VCCINT (5.0 V ONLY) (power), P11 VCCINT (5.0 V ONLY) (power), R5 VCCIO (3.3 V OR 5.0 V) (power), R14 VCCIO (3.3 V OR 5.0 V) (power)
part S pins: C7 GND (power), C13 GND (power), D4 GND (power), D8 GND (power), D10 GND (power), G14 GND (power), H4 GND (power), K14 GND (power), L4 GND (power), P8 GND (power), P10 GND (power), P15 GND (power), R4 GND (power), R11 GND (power)
part A text: BANK A
part B text: BANK B
part C text: BANK C
part D text: BANK D
part E text: BANK E
part F text: BANK F
part G text: BANK G
part H text: BANK H
part I text: BANK I
part J text: BANK J
part K text: BANK K
part L text: BANK L
part M text: BANK M
part N text: BANK N
part O text: BANK O
part P text: BANK P

## EPM7256EGC192-15
designator U?
MAX 7000E 5V CPLD, 256 Macrocells, 192-Pin PGA, Speed Grade 15, Commercial Grade; Published: 24-Nov-2000; LatestRevisionDate: 16-Dec-2005; LatestRevisionNote: Banks placed in parts.; DatasheetVersion: ver6.7, Sep-2005; PackageVersion: ver14.3, Jul-2006; PackageReference: PGA192; Publisher: Altium Limited; PackageDescription: 192-Pin Ceramic Pin Grid Array (PGA192); Code_JEDEC: MO-067-AJ; ComponentLink1Description: Manufacturer Link; ComponentLink1URL: http://www.altera.com/products/devices/max7k/m7k-index.html; ComponentLink2Description: Datasheet; ComponentLink2URL: http://www.altera.com/literature/ds/m7000.pdf; ComponentLink3Description: Packaging Specification; ComponentLink3URL: http://www.altera.com/literature/ds/dspkg.pdf
footprint PGA192 (PGA, 192-Leads, Body 44.7x44.7mm, Pitch 2.54mm)
3D model EPM7256E-PGA192 (192-Pin Ceramic Pin Grid Array (PGA192))
signal-integrity model 7k (MAX 7000S)
part A pins: P14 IO (io), R15 IO (io), R16 IO (io), T14 IO (io), T15 IO (io), U13 IO (io), U14 IO (io), U15 IO (io), U16 IO (io), U17 IO (io)
part B pins: M15 IO (io), M16 IO (io), N15 IO (io), N16 IO (io), N17 IO (io), P16 IO (io), P17 IO (io), R17 IO (io), T16 IO (io), T17 IO (io)
part C pins: B17 IO (io), C15 IO (io), C16 IO (io), C17 IO (io), D15 IO (io), D16 IO (io), D17 IO (io), E15 IO (io), E17 IO (io), F16 IO (io)
part D pins: A14 IO (io), A15 IO (io), A16 IO (io), A17 IO (io), B12 IO (io), B13 IO (io), B14 IO (io), B15 IO (io), B16 IO (io), C14 IO (io)
part E pins: R10 IO (io), R12 IO (io), R13 IO (io), T10 IO (io), T11 IO (io), T12 IO (io), T13 IO (io), U10 IO (io), U11 IO (io), U12 IO (io)
part F pins: J14 IO (io), J15 IO (io), J16 IO (io), K15 IO (io), K16 IO (io), K17 IO (io), L15 IO (io), L16 IO (io), L17 IO (io), M17 IO (io)
part G pins: E16 IO (io), F15 IO (io), F17 IO (io), G15 IO (io), G16 IO (io), G17 IO (io), H15 IO (io), H16 IO (io), H17 IO (io), J17 IO (io)
part H pins: A10 IO (io), A11 IO (io), A12 IO (io), A13 IO (io), B10 IO (io), B11 IO (io), C9 IO (io), C10 IO (io), C12 IO (io), D9 IO (io)
part I pins: R6 IO (io), R7 IO (io), R8 IO (io), T5 IO (io), T6 IO (io), T7 IO (io), T8 IO (io), U6 IO (io), U7 IO (io), U8 IO (io)
part J pins: J2 IO (io), J3 IO (io), J4 IO (io), K1 IO (io), K2 IO (io), K3 IO (io), L1 IO (io), L2 IO (io), L3 IO (io), M1 IO (io)
part K pins: E2 IO (io), F1 IO (io), F3 IO (io), G1 IO (io), G2 IO (io), G3 IO (io), H1 IO (io), H2 IO (io), H3 IO (io), J1 IO (io)
part L pins: A5 IO (io), A6 IO (io), A7 IO (io), A8 IO (io), A9 IO (io), B7 IO (io), B8 IO (io), B9 IO (io), C6 IO (io), C8 IO (io)
part M pins: P4 IO (io), R2 IO (io), R3 IO (io), T3 IO (io), T4 IO (io), U1 IO (io), U2 IO (io), U3 IO (io), U4 IO (io), U5 IO (io)
part N pins: M2 IO (io), M3 IO (io), N1 IO (io), N2 IO (io), N3 IO (io), P1 IO (io), P2 IO (io), R1 IO (io), T1 IO (io), T2 IO (io)
part O pins: B1 IO (io), C1 IO (io), C2 IO (io), C3 IO (io), D1 IO (io), D2 IO (io), D3 IO (io), E1 IO (io), E3 IO (io), F2 IO (io)
part P pins: A1 IO (io), A2 IO (io), A3 IO (io), A4 IO (io), B2 IO (io), B3 IO (io), B4 IO (io), B5 IO (io), B6 IO (io), C4 IO (io)
part Q pins: P9 INPUT/GCLK1 (in), R9 INPUT/GCLRn (in), T9 INPUT/OE1 (in), U9 INPUT/OE2/GCLK2 (in)
part R pins: C5 VCCIO (3.3 V OR 5.0 V) (power), C11 VCCIO (3.3 V OR 5.0 V) (power), D7 VCCINT (5.0 V ONLY) (power), D11 VCCINT (5.0 V ONLY) (power), D14 VCCIO (3.3 V OR 5.0 V) (power), G4 VCCIO (3.3 V OR 5.0 V) (power), H14 VCCIO (3.3 V OR 5.0 V) (power), K4 VCCIO (3.3 V OR 5.0 V) (power), L14 VCCIO (3.3 V OR 5.0 V) (power), P3 VCCIO (3.3 V OR 5.0 V) (power), P7 VCCINT (5.0 V ONLY) (power), P11 VCCINT (5.0 V ONLY) (power), R5 VCCIO (3.3 V OR 5.0 V) (power), R14 VCCIO (3.3 V OR 5.0 V) (power)
part S pins: C7 GND (power), C13 GND (power), D4 GND (power), D8 GND (power), D10 GND (power), G14 GND (power), H4 GND (power), K14 GND (power), L4 GND (power), P8 GND (power), P10 GND (power), P15 GND (power), R4 GND (power), R11 GND (power)
part A text: BANK A
part B text: BANK B
part C text: BANK C
part D text: BANK D
part E text: BANK E
part F text: BANK F
part G text: BANK G
part H text: BANK H
part I text: BANK I
part J text: BANK J
part K text: BANK K
part L text: BANK L
part M text: BANK M
part N text: BANK N
part O text: BANK O
part P text: BANK P

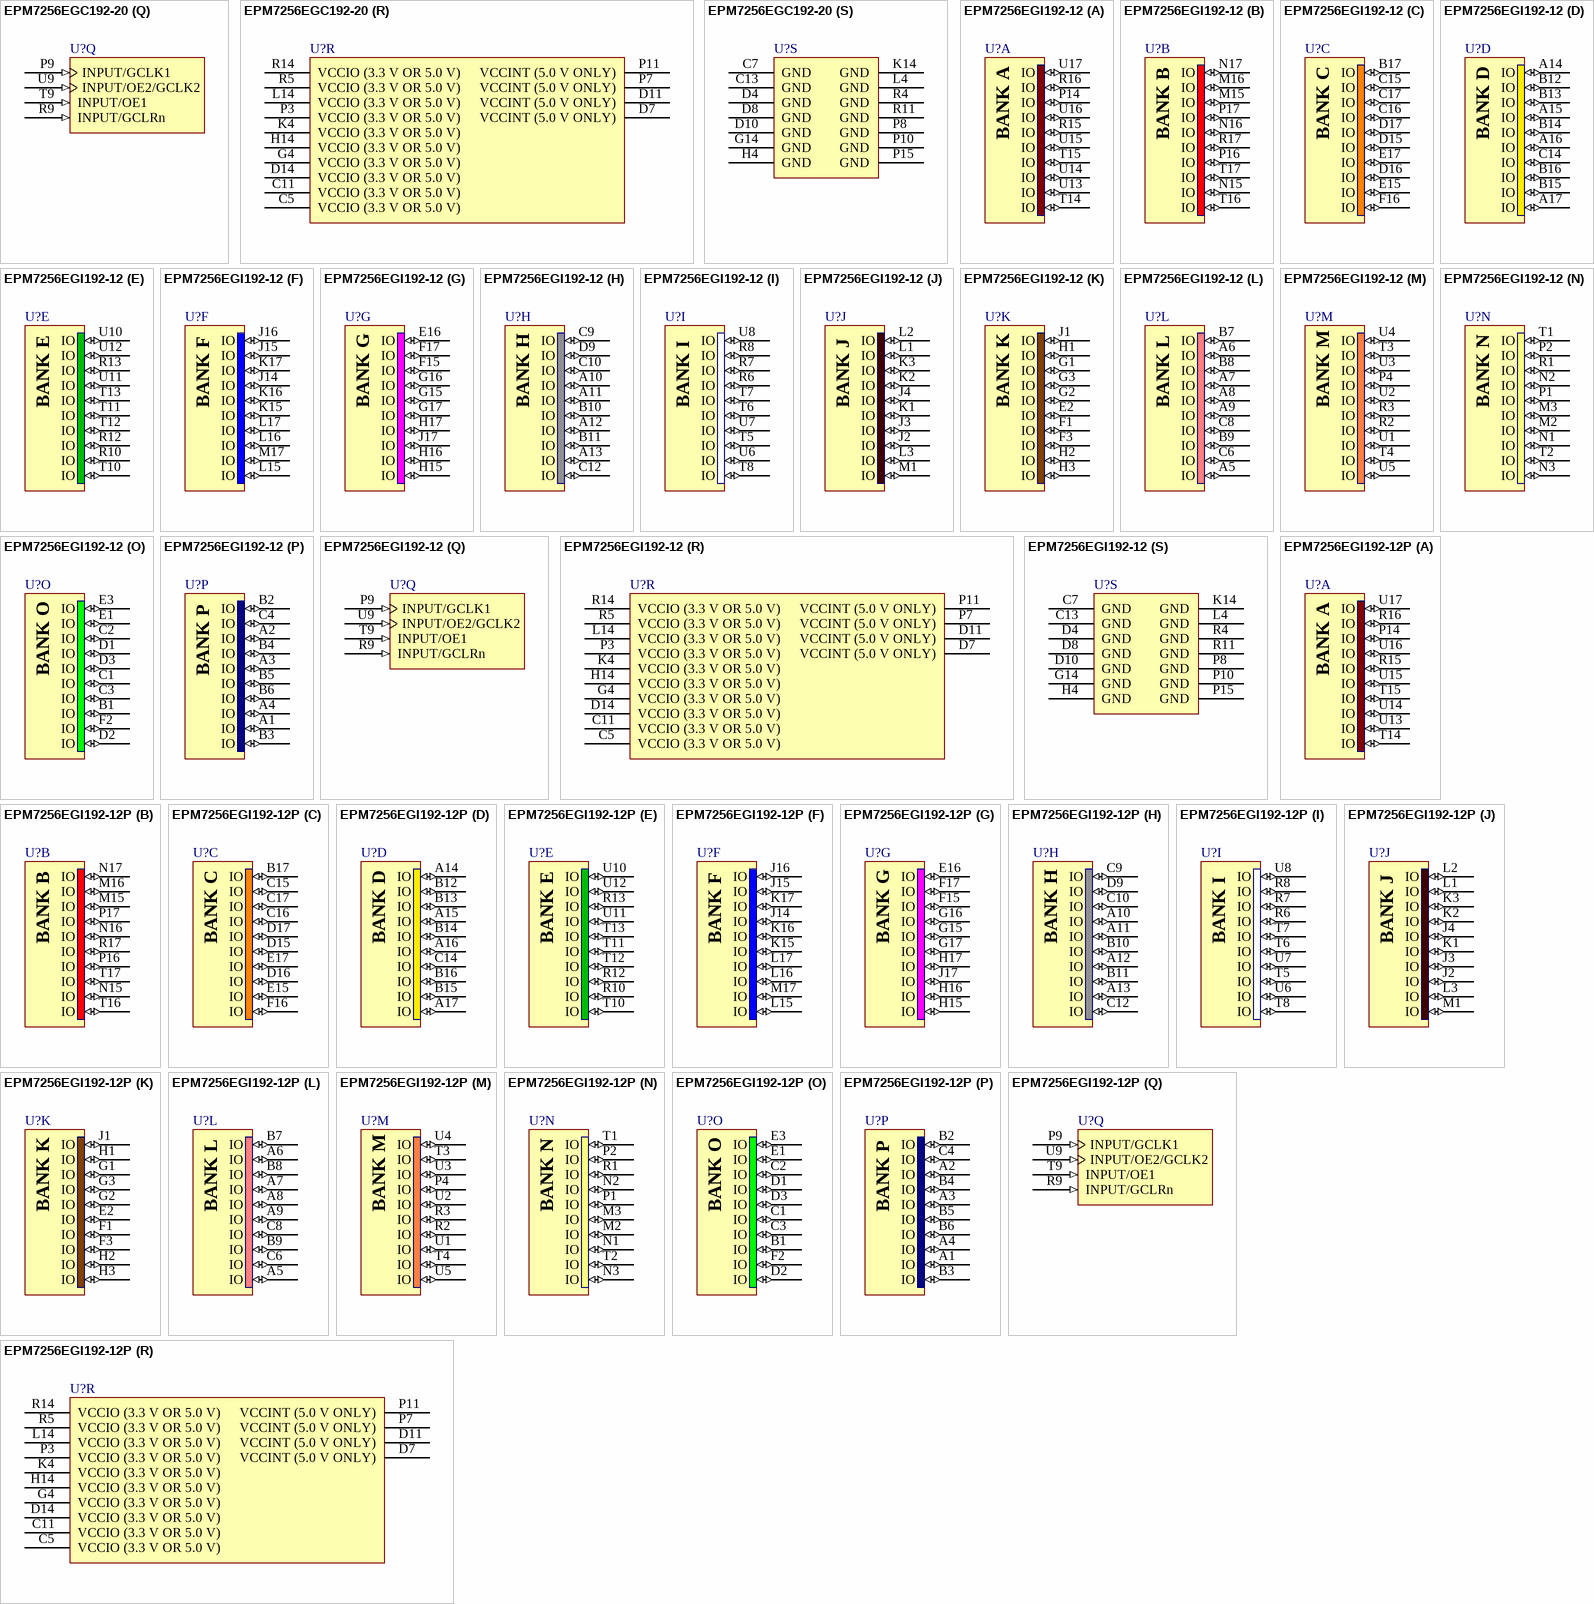
[diagram p88: symbols EPM7256EGC192-20 to EPM7256EGI192-12P]

## EPM7256EGC192-20
designator U?
MAX 7000E 5V CPLD, 256 Macrocells, 192-Pin PGA, Speed Grade 20, Commercial Grade; Published: 24-Nov-2000; LatestRevisionDate: 16-Dec-2005; LatestRevisionNote: Banks placed in parts.; DatasheetVersion: ver6.7, Sep-2005; PackageVersion: ver14.3, Jul-2006; PackageReference: PGA192; Publisher: Altium Limited; PackageDescription: 192-Pin Ceramic Pin Grid Array (PGA192); Code_JEDEC: MO-067-AJ; ComponentLink1Description: Manufacturer Link; ComponentLink1URL: http://www.altera.com/products/devices/max7k/m7k-index.html; ComponentLink2Description: Datasheet; ComponentLink2URL: http://www.altera.com/literature/ds/m7000.pdf; ComponentLink3Description: Packaging Specification; ComponentLink3URL: http://www.altera.com/literature/ds/dspkg.pdf
footprint PGA192 (PGA, 192-Leads, Body 44.7x44.7mm, Pitch 2.54mm)
3D model EPM7256E-PGA192 (192-Pin Ceramic Pin Grid Array (PGA192))
signal-integrity model 7k (MAX 7000S)
part A pins: P14 IO (io), R15 IO (io), R16 IO (io), T14 IO (io), T15 IO (io), U13 IO (io), U14 IO (io), U15 IO (io), U16 IO (io), U17 IO (io)
part B pins: M15 IO (io), M16 IO (io), N15 IO (io), N16 IO (io), N17 IO (io), P16 IO (io), P17 IO (io), R17 IO (io), T16 IO (io), T17 IO (io)
part C pins: B17 IO (io), C15 IO (io), C16 IO (io), C17 IO (io), D15 IO (io), D16 IO (io), D17 IO (io), E15 IO (io), E17 IO (io), F16 IO (io)
part D pins: A14 IO (io), A15 IO (io), A16 IO (io), A17 IO (io), B12 IO (io), B13 IO (io), B14 IO (io), B15 IO (io), B16 IO (io), C14 IO (io)
part E pins: R10 IO (io), R12 IO (io), R13 IO (io), T10 IO (io), T11 IO (io), T12 IO (io), T13 IO (io), U10 IO (io), U11 IO (io), U12 IO (io)
part F pins: J14 IO (io), J15 IO (io), J16 IO (io), K15 IO (io), K16 IO (io), K17 IO (io), L15 IO (io), L16 IO (io), L17 IO (io), M17 IO (io)
part G pins: E16 IO (io), F15 IO (io), F17 IO (io), G15 IO (io), G16 IO (io), G17 IO (io), H15 IO (io), H16 IO (io), H17 IO (io), J17 IO (io)
part H pins: A10 IO (io), A11 IO (io), A12 IO (io), A13 IO (io), B10 IO (io), B11 IO (io), C9 IO (io), C10 IO (io), C12 IO (io), D9 IO (io)
part I pins: R6 IO (io), R7 IO (io), R8 IO (io), T5 IO (io), T6 IO (io), T7 IO (io), T8 IO (io), U6 IO (io), U7 IO (io), U8 IO (io)
part J pins: J2 IO (io), J3 IO (io), J4 IO (io), K1 IO (io), K2 IO (io), K3 IO (io), L1 IO (io), L2 IO (io), L3 IO (io), M1 IO (io)
part K pins: E2 IO (io), F1 IO (io), F3 IO (io), G1 IO (io), G2 IO (io), G3 IO (io), H1 IO (io), H2 IO (io), H3 IO (io), J1 IO (io)
part L pins: A5 IO (io), A6 IO (io), A7 IO (io), A8 IO (io), A9 IO (io), B7 IO (io), B8 IO (io), B9 IO (io), C6 IO (io), C8 IO (io)
part M pins: P4 IO (io), R2 IO (io), R3 IO (io), T3 IO (io), T4 IO (io), U1 IO (io), U2 IO (io), U3 IO (io), U4 IO (io), U5 IO (io)
part N pins: M2 IO (io), M3 IO (io), N1 IO (io), N2 IO (io), N3 IO (io), P1 IO (io), P2 IO (io), R1 IO (io), T1 IO (io), T2 IO (io)
part O pins: B1 IO (io), C1 IO (io), C2 IO (io), C3 IO (io), D1 IO (io), D2 IO (io), D3 IO (io), E1 IO (io), E3 IO (io), F2 IO (io)
part P pins: A1 IO (io), A2 IO (io), A3 IO (io), A4 IO (io), B2 IO (io), B3 IO (io), B4 IO (io), B5 IO (io), B6 IO (io), C4 IO (io)
part Q pins: P9 INPUT/GCLK1 (in), R9 INPUT/GCLRn (in), T9 INPUT/OE1 (in), U9 INPUT/OE2/GCLK2 (in)
part R pins: C5 VCCIO (3.3 V OR 5.0 V) (power), C11 VCCIO (3.3 V OR 5.0 V) (power), D7 VCCINT (5.0 V ONLY) (power), D11 VCCINT (5.0 V ONLY) (power), D14 VCCIO (3.3 V OR 5.0 V) (power), G4 VCCIO (3.3 V OR 5.0 V) (power), H14 VCCIO (3.3 V OR 5.0 V) (power), K4 VCCIO (3.3 V OR 5.0 V) (power), L14 VCCIO (3.3 V OR 5.0 V) (power), P3 VCCIO (3.3 V OR 5.0 V) (power), P7 VCCINT (5.0 V ONLY) (power), P11 VCCINT (5.0 V ONLY) (power), R5 VCCIO (3.3 V OR 5.0 V) (power), R14 VCCIO (3.3 V OR 5.0 V) (power)
part S pins: C7 GND (power), C13 GND (power), D4 GND (power), D8 GND (power), D10 GND (power), G14 GND (power), H4 GND (power), K14 GND (power), L4 GND (power), P8 GND (power), P10 GND (power), P15 GND (power), R4 GND (power), R11 GND (power)
part A text: BANK A
part B text: BANK B
part C text: BANK C
part D text: BANK D
part E text: BANK E
part F text: BANK F
part G text: BANK G
part H text: BANK H
part I text: BANK I
part J text: BANK J
part K text: BANK K
part L text: BANK L
part M text: BANK M
part N text: BANK N
part O text: BANK O
part P text: BANK P

## EPM7256EGI192-12
designator U?
MAX 7000E 5V CPLD, 256 Macrocells, 192-Pin PGA, Speed Grade 12, Industrial Grade; Published: 17-Sep-2003; LatestRevisionDate: 16-Dec-2005; LatestRevisionNote: Banks placed in parts.; DatasheetVersion: ver6.7, Sep-2005; PackageVersion: ver14.3, Jul-2006; PackageReference: PGA192; Publisher: Altium Limited; PackageDescription: 192-Pin Ceramic Pin Grid Array (PGA192); Code_JEDEC: MO-067-AJ; ComponentLink1Description: Manufacturer Link; ComponentLink1URL: http://www.altera.com/products/devices/max7k/m7k-index.html; ComponentLink2Description: Datasheet; ComponentLink2URL: http://www.altera.com/literature/ds/m7000.pdf; ComponentLink3Description: Packaging Specification; ComponentLink3URL: http://www.altera.com/literature/ds/dspkg.pdf
footprint PGA192 (PGA, 192-Leads, Body 44.7x44.7mm, Pitch 2.54mm)
3D model EPM7256E-PGA192 (192-Pin Ceramic Pin Grid Array (PGA192))
signal-integrity model 7k (MAX 7000S)
part A pins: P14 IO (io), R15 IO (io), R16 IO (io), T14 IO (io), T15 IO (io), U13 IO (io), U14 IO (io), U15 IO (io), U16 IO (io), U17 IO (io)
part B pins: M15 IO (io), M16 IO (io), N15 IO (io), N16 IO (io), N17 IO (io), P16 IO (io), P17 IO (io), R17 IO (io), T16 IO (io), T17 IO (io)
part C pins: B17 IO (io), C15 IO (io), C16 IO (io), C17 IO (io), D15 IO (io), D16 IO (io), D17 IO (io), E15 IO (io), E17 IO (io), F16 IO (io)
part D pins: A14 IO (io), A15 IO (io), A16 IO (io), A17 IO (io), B12 IO (io), B13 IO (io), B14 IO (io), B15 IO (io), B16 IO (io), C14 IO (io)
part E pins: R10 IO (io), R12 IO (io), R13 IO (io), T10 IO (io), T11 IO (io), T12 IO (io), T13 IO (io), U10 IO (io), U11 IO (io), U12 IO (io)
part F pins: J14 IO (io), J15 IO (io), J16 IO (io), K15 IO (io), K16 IO (io), K17 IO (io), L15 IO (io), L16 IO (io), L17 IO (io), M17 IO (io)
part G pins: E16 IO (io), F15 IO (io), F17 IO (io), G15 IO (io), G16 IO (io), G17 IO (io), H15 IO (io), H16 IO (io), H17 IO (io), J17 IO (io)
part H pins: A10 IO (io), A11 IO (io), A12 IO (io), A13 IO (io), B10 IO (io), B11 IO (io), C9 IO (io), C10 IO (io), C12 IO (io), D9 IO (io)
part I pins: R6 IO (io), R7 IO (io), R8 IO (io), T5 IO (io), T6 IO (io), T7 IO (io), T8 IO (io), U6 IO (io), U7 IO (io), U8 IO (io)
part J pins: J2 IO (io), J3 IO (io), J4 IO (io), K1 IO (io), K2 IO (io), K3 IO (io), L1 IO (io), L2 IO (io), L3 IO (io), M1 IO (io)
part K pins: E2 IO (io), F1 IO (io), F3 IO (io), G1 IO (io), G2 IO (io), G3 IO (io), H1 IO (io), H2 IO (io), H3 IO (io), J1 IO (io)
part L pins: A5 IO (io), A6 IO (io), A7 IO (io), A8 IO (io), A9 IO (io), B7 IO (io), B8 IO (io), B9 IO (io), C6 IO (io), C8 IO (io)
part M pins: P4 IO (io), R2 IO (io), R3 IO (io), T3 IO (io), T4 IO (io), U1 IO (io), U2 IO (io), U3 IO (io), U4 IO (io), U5 IO (io)
part N pins: M2 IO (io), M3 IO (io), N1 IO (io), N2 IO (io), N3 IO (io), P1 IO (io), P2 IO (io), R1 IO (io), T1 IO (io), T2 IO (io)
part O pins: B1 IO (io), C1 IO (io), C2 IO (io), C3 IO (io), D1 IO (io), D2 IO (io), D3 IO (io), E1 IO (io), E3 IO (io), F2 IO (io)
part P pins: A1 IO (io), A2 IO (io), A3 IO (io), A4 IO (io), B2 IO (io), B3 IO (io), B4 IO (io), B5 IO (io), B6 IO (io), C4 IO (io)
part Q pins: P9 INPUT/GCLK1 (in), R9 INPUT/GCLRn (in), T9 INPUT/OE1 (in), U9 INPUT/OE2/GCLK2 (in)
part R pins: C5 VCCIO (3.3 V OR 5.0 V) (power), C11 VCCIO (3.3 V OR 5.0 V) (power), D7 VCCINT (5.0 V ONLY) (power), D11 VCCINT (5.0 V ONLY) (power), D14 VCCIO (3.3 V OR 5.0 V) (power), G4 VCCIO (3.3 V OR 5.0 V) (power), H14 VCCIO (3.3 V OR 5.0 V) (power), K4 VCCIO (3.3 V OR 5.0 V) (power), L14 VCCIO (3.3 V OR 5.0 V) (power), P3 VCCIO (3.3 V OR 5.0 V) (power), P7 VCCINT (5.0 V ONLY) (power), P11 VCCINT (5.0 V ONLY) (power), R5 VCCIO (3.3 V OR 5.0 V) (power), R14 VCCIO (3.3 V OR 5.0 V) (power)
part S pins: C7 GND (power), C13 GND (power), D4 GND (power), D8 GND (power), D10 GND (power), G14 GND (power), H4 GND (power), K14 GND (power), L4 GND (power), P8 GND (power), P10 GND (power), P15 GND (power), R4 GND (power), R11 GND (power)
part A text: BANK A
part B text: BANK B
part C text: BANK C
part D text: BANK D
part E text: BANK E
part F text: BANK F
part G text: BANK G
part H text: BANK H
part I text: BANK I
part J text: BANK J
part K text: BANK K
part L text: BANK L
part M text: BANK M
part N text: BANK N
part O text: BANK O
part P text: BANK P

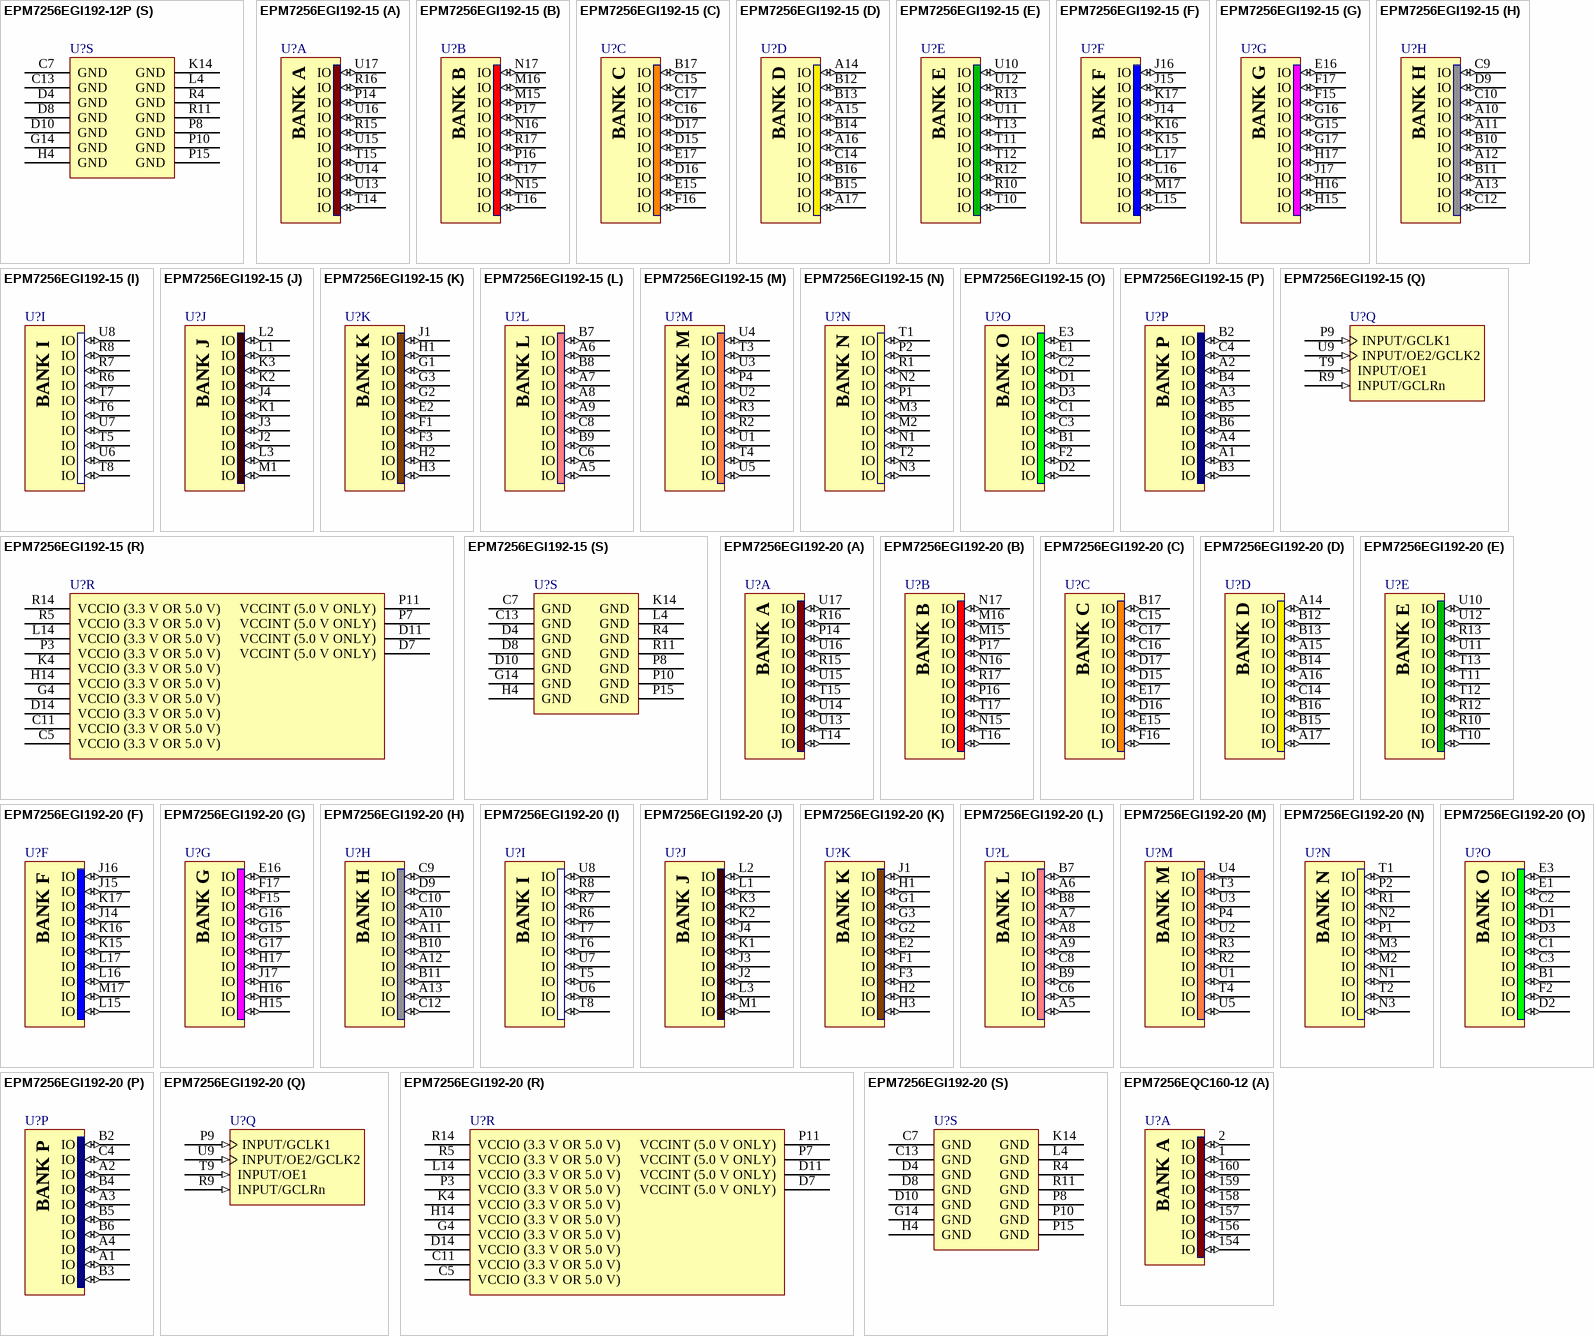
[diagram p89: symbols EPM7256EGI192-12P to EPM7256EQC160-12]

## EPM7256EGI192-12P
designator U?
MAX 7000E 5V CPLD, 256 Macrocells, 192-Pin PGA, Speed Grade 12P, Industrial Grade; Published: 17-Sep-2003; LatestRevisionDate: 16-Dec-2005; LatestRevisionNote: Banks placed in parts.; DatasheetVersion: ver6.7, Sep-2005; PackageVersion: ver14.3, Jul-2006; PackageReference: PGA192; Publisher: Altium Limited; PackageDescription: 192-Pin Ceramic Pin Grid Array (PGA192); Code_JEDEC: MO-067-AJ; ComponentLink1Description: Manufacturer Link; ComponentLink1URL: http://www.altera.com/products/devices/max7k/m7k-index.html; ComponentLink2Description: Datasheet; ComponentLink2URL: http://www.altera.com/literature/ds/m7000.pdf; ComponentLink3Description: Packaging Specification; ComponentLink3URL: http://www.altera.com/literature/ds/dspkg.pdf
footprint PGA192 (PGA, 192-Leads, Body 44.7x44.7mm, Pitch 2.54mm)
3D model EPM7256E-PGA192 (192-Pin Ceramic Pin Grid Array (PGA192))
signal-integrity model 7k (MAX 7000S)
part A pins: P14 IO (io), R15 IO (io), R16 IO (io), T14 IO (io), T15 IO (io), U13 IO (io), U14 IO (io), U15 IO (io), U16 IO (io), U17 IO (io)
part B pins: M15 IO (io), M16 IO (io), N15 IO (io), N16 IO (io), N17 IO (io), P16 IO (io), P17 IO (io), R17 IO (io), T16 IO (io), T17 IO (io)
part C pins: B17 IO (io), C15 IO (io), C16 IO (io), C17 IO (io), D15 IO (io), D16 IO (io), D17 IO (io), E15 IO (io), E17 IO (io), F16 IO (io)
part D pins: A14 IO (io), A15 IO (io), A16 IO (io), A17 IO (io), B12 IO (io), B13 IO (io), B14 IO (io), B15 IO (io), B16 IO (io), C14 IO (io)
part E pins: R10 IO (io), R12 IO (io), R13 IO (io), T10 IO (io), T11 IO (io), T12 IO (io), T13 IO (io), U10 IO (io), U11 IO (io), U12 IO (io)
part F pins: J14 IO (io), J15 IO (io), J16 IO (io), K15 IO (io), K16 IO (io), K17 IO (io), L15 IO (io), L16 IO (io), L17 IO (io), M17 IO (io)
part G pins: E16 IO (io), F15 IO (io), F17 IO (io), G15 IO (io), G16 IO (io), G17 IO (io), H15 IO (io), H16 IO (io), H17 IO (io), J17 IO (io)
part H pins: A10 IO (io), A11 IO (io), A12 IO (io), A13 IO (io), B10 IO (io), B11 IO (io), C9 IO (io), C10 IO (io), C12 IO (io), D9 IO (io)
part I pins: R6 IO (io), R7 IO (io), R8 IO (io), T5 IO (io), T6 IO (io), T7 IO (io), T8 IO (io), U6 IO (io), U7 IO (io), U8 IO (io)
part J pins: J2 IO (io), J3 IO (io), J4 IO (io), K1 IO (io), K2 IO (io), K3 IO (io), L1 IO (io), L2 IO (io), L3 IO (io), M1 IO (io)
part K pins: E2 IO (io), F1 IO (io), F3 IO (io), G1 IO (io), G2 IO (io), G3 IO (io), H1 IO (io), H2 IO (io), H3 IO (io), J1 IO (io)
part L pins: A5 IO (io), A6 IO (io), A7 IO (io), A8 IO (io), A9 IO (io), B7 IO (io), B8 IO (io), B9 IO (io), C6 IO (io), C8 IO (io)
part M pins: P4 IO (io), R2 IO (io), R3 IO (io), T3 IO (io), T4 IO (io), U1 IO (io), U2 IO (io), U3 IO (io), U4 IO (io), U5 IO (io)
part N pins: M2 IO (io), M3 IO (io), N1 IO (io), N2 IO (io), N3 IO (io), P1 IO (io), P2 IO (io), R1 IO (io), T1 IO (io), T2 IO (io)
part O pins: B1 IO (io), C1 IO (io), C2 IO (io), C3 IO (io), D1 IO (io), D2 IO (io), D3 IO (io), E1 IO (io), E3 IO (io), F2 IO (io)
part P pins: A1 IO (io), A2 IO (io), A3 IO (io), A4 IO (io), B2 IO (io), B3 IO (io), B4 IO (io), B5 IO (io), B6 IO (io), C4 IO (io)
part Q pins: P9 INPUT/GCLK1 (in), R9 INPUT/GCLRn (in), T9 INPUT/OE1 (in), U9 INPUT/OE2/GCLK2 (in)
part R pins: C5 VCCIO (3.3 V OR 5.0 V) (power), C11 VCCIO (3.3 V OR 5.0 V) (power), D7 VCCINT (5.0 V ONLY) (power), D11 VCCINT (5.0 V ONLY) (power), D14 VCCIO (3.3 V OR 5.0 V) (power), G4 VCCIO (3.3 V OR 5.0 V) (power), H14 VCCIO (3.3 V OR 5.0 V) (power), K4 VCCIO (3.3 V OR 5.0 V) (power), L14 VCCIO (3.3 V OR 5.0 V) (power), P3 VCCIO (3.3 V OR 5.0 V) (power), P7 VCCINT (5.0 V ONLY) (power), P11 VCCINT (5.0 V ONLY) (power), R5 VCCIO (3.3 V OR 5.0 V) (power), R14 VCCIO (3.3 V OR 5.0 V) (power)
part S pins: C7 GND (power), C13 GND (power), D4 GND (power), D8 GND (power), D10 GND (power), G14 GND (power), H4 GND (power), K14 GND (power), L4 GND (power), P8 GND (power), P10 GND (power), P15 GND (power), R4 GND (power), R11 GND (power)
part A text: BANK A
part B text: BANK B
part C text: BANK C
part D text: BANK D
part E text: BANK E
part F text: BANK F
part G text: BANK G
part H text: BANK H
part I text: BANK I
part J text: BANK J
part K text: BANK K
part L text: BANK L
part M text: BANK M
part N text: BANK N
part O text: BANK O
part P text: BANK P

## EPM7256EGI192-15
designator U?
MAX 7000E 5V CPLD, 256 Macrocells, 192-Pin PGA, Speed Grade 15, Industrial Grade; Published: 24-Nov-2000; LatestRevisionDate: 16-Dec-2005; LatestRevisionNote: Banks placed in parts.; DatasheetVersion: ver6.7, Sep-2005; PackageVersion: ver14.3, Jul-2006; PackageReference: PGA192; Publisher: Altium Limited; PackageDescription: 192-Pin Ceramic Pin Grid Array (PGA192); Code_JEDEC: MO-067-AJ; ComponentLink1Description: Manufacturer Link; ComponentLink1URL: http://www.altera.com/products/devices/max7k/m7k-index.html; ComponentLink2Description: Datasheet; ComponentLink2URL: http://www.altera.com/literature/ds/m7000.pdf; ComponentLink3Description: Packaging Specification; ComponentLink3URL: http://www.altera.com/literature/ds/dspkg.pdf
footprint PGA192 (PGA, 192-Leads, Body 44.7x44.7mm, Pitch 2.54mm)
3D model EPM7256E-PGA192 (192-Pin Ceramic Pin Grid Array (PGA192))
signal-integrity model 7k (MAX 7000S)
part A pins: P14 IO (io), R15 IO (io), R16 IO (io), T14 IO (io), T15 IO (io), U13 IO (io), U14 IO (io), U15 IO (io), U16 IO (io), U17 IO (io)
part B pins: M15 IO (io), M16 IO (io), N15 IO (io), N16 IO (io), N17 IO (io), P16 IO (io), P17 IO (io), R17 IO (io), T16 IO (io), T17 IO (io)
part C pins: B17 IO (io), C15 IO (io), C16 IO (io), C17 IO (io), D15 IO (io), D16 IO (io), D17 IO (io), E15 IO (io), E17 IO (io), F16 IO (io)
part D pins: A14 IO (io), A15 IO (io), A16 IO (io), A17 IO (io), B12 IO (io), B13 IO (io), B14 IO (io), B15 IO (io), B16 IO (io), C14 IO (io)
part E pins: R10 IO (io), R12 IO (io), R13 IO (io), T10 IO (io), T11 IO (io), T12 IO (io), T13 IO (io), U10 IO (io), U11 IO (io), U12 IO (io)
part F pins: J14 IO (io), J15 IO (io), J16 IO (io), K15 IO (io), K16 IO (io), K17 IO (io), L15 IO (io), L16 IO (io), L17 IO (io), M17 IO (io)
part G pins: E16 IO (io), F15 IO (io), F17 IO (io), G15 IO (io), G16 IO (io), G17 IO (io), H15 IO (io), H16 IO (io), H17 IO (io), J17 IO (io)
part H pins: A10 IO (io), A11 IO (io), A12 IO (io), A13 IO (io), B10 IO (io), B11 IO (io), C9 IO (io), C10 IO (io), C12 IO (io), D9 IO (io)
part I pins: R6 IO (io), R7 IO (io), R8 IO (io), T5 IO (io), T6 IO (io), T7 IO (io), T8 IO (io), U6 IO (io), U7 IO (io), U8 IO (io)
part J pins: J2 IO (io), J3 IO (io), J4 IO (io), K1 IO (io), K2 IO (io), K3 IO (io), L1 IO (io), L2 IO (io), L3 IO (io), M1 IO (io)
part K pins: E2 IO (io), F1 IO (io), F3 IO (io), G1 IO (io), G2 IO (io), G3 IO (io), H1 IO (io), H2 IO (io), H3 IO (io), J1 IO (io)
part L pins: A5 IO (io), A6 IO (io), A7 IO (io), A8 IO (io), A9 IO (io), B7 IO (io), B8 IO (io), B9 IO (io), C6 IO (io), C8 IO (io)
part M pins: P4 IO (io), R2 IO (io), R3 IO (io), T3 IO (io), T4 IO (io), U1 IO (io), U2 IO (io), U3 IO (io), U4 IO (io), U5 IO (io)
part N pins: M2 IO (io), M3 IO (io), N1 IO (io), N2 IO (io), N3 IO (io), P1 IO (io), P2 IO (io), R1 IO (io), T1 IO (io), T2 IO (io)
part O pins: B1 IO (io), C1 IO (io), C2 IO (io), C3 IO (io), D1 IO (io), D2 IO (io), D3 IO (io), E1 IO (io), E3 IO (io), F2 IO (io)
part P pins: A1 IO (io), A2 IO (io), A3 IO (io), A4 IO (io), B2 IO (io), B3 IO (io), B4 IO (io), B5 IO (io), B6 IO (io), C4 IO (io)
part Q pins: P9 INPUT/GCLK1 (in), R9 INPUT/GCLRn (in), T9 INPUT/OE1 (in), U9 INPUT/OE2/GCLK2 (in)
part R pins: C5 VCCIO (3.3 V OR 5.0 V) (power), C11 VCCIO (3.3 V OR 5.0 V) (power), D7 VCCINT (5.0 V ONLY) (power), D11 VCCINT (5.0 V ONLY) (power), D14 VCCIO (3.3 V OR 5.0 V) (power), G4 VCCIO (3.3 V OR 5.0 V) (power), H14 VCCIO (3.3 V OR 5.0 V) (power), K4 VCCIO (3.3 V OR 5.0 V) (power), L14 VCCIO (3.3 V OR 5.0 V) (power), P3 VCCIO (3.3 V OR 5.0 V) (power), P7 VCCINT (5.0 V ONLY) (power), P11 VCCINT (5.0 V ONLY) (power), R5 VCCIO (3.3 V OR 5.0 V) (power), R14 VCCIO (3.3 V OR 5.0 V) (power)
part S pins: C7 GND (power), C13 GND (power), D4 GND (power), D8 GND (power), D10 GND (power), G14 GND (power), H4 GND (power), K14 GND (power), L4 GND (power), P8 GND (power), P10 GND (power), P15 GND (power), R4 GND (power), R11 GND (power)
part A text: BANK A
part B text: BANK B
part C text: BANK C
part D text: BANK D
part E text: BANK E
part F text: BANK F
part G text: BANK G
part H text: BANK H
part I text: BANK I
part J text: BANK J
part K text: BANK K
part L text: BANK L
part M text: BANK M
part N text: BANK N
part O text: BANK O
part P text: BANK P

## EPM7256EGI192-20
designator U?
MAX 7000E 5V CPLD, 256 Macrocells, 192-Pin PGA, Speed Grade 20, Industrial Grade; Published: 24-Nov-2000; LatestRevisionDate: 16-Dec-2005; LatestRevisionNote: Banks placed in parts.; DatasheetVersion: ver6.7, Sep-2005; PackageVersion: ver14.3, Jul-2006; PackageReference: PGA192; Publisher: Altium Limited; PackageDescription: 192-Pin Ceramic Pin Grid Array (PGA192); Supplier 1: Digi-Key; Supplier Part Number 1: 544-2356-ND; Code_JEDEC: MO-067-AJ; ComponentLink1Description: Manufacturer Link; ComponentLink1URL: http://www.altera.com/products/devices/max7k/m7k-index.html; ComponentLink2Description: Datasheet; ComponentLink2URL: http://www.altera.com/literature/ds/m7000.pdf; ComponentLink3Description: Packaging Specification; ComponentLink3URL: http://www.altera.com/literature/ds/dspkg.pdf
footprint PGA192 (PGA, 192-Leads, Body 44.7x44.7mm, Pitch 2.54mm)
3D model EPM7256E-PGA192 (192-Pin Ceramic Pin Grid Array (PGA192))
signal-integrity model 7k (MAX 7000S)
part A pins: P14 IO (io), R15 IO (io), R16 IO (io), T14 IO (io), T15 IO (io), U13 IO (io), U14 IO (io), U15 IO (io), U16 IO (io), U17 IO (io)
part B pins: M15 IO (io), M16 IO (io), N15 IO (io), N16 IO (io), N17 IO (io), P16 IO (io), P17 IO (io), R17 IO (io), T16 IO (io), T17 IO (io)
part C pins: B17 IO (io), C15 IO (io), C16 IO (io), C17 IO (io), D15 IO (io), D16 IO (io), D17 IO (io), E15 IO (io), E17 IO (io), F16 IO (io)
part D pins: A14 IO (io), A15 IO (io), A16 IO (io), A17 IO (io), B12 IO (io), B13 IO (io), B14 IO (io), B15 IO (io), B16 IO (io), C14 IO (io)
part E pins: R10 IO (io), R12 IO (io), R13 IO (io), T10 IO (io), T11 IO (io), T12 IO (io), T13 IO (io), U10 IO (io), U11 IO (io), U12 IO (io)
part F pins: J14 IO (io), J15 IO (io), J16 IO (io), K15 IO (io), K16 IO (io), K17 IO (io), L15 IO (io), L16 IO (io), L17 IO (io), M17 IO (io)
part G pins: E16 IO (io), F15 IO (io), F17 IO (io), G15 IO (io), G16 IO (io), G17 IO (io), H15 IO (io), H16 IO (io), H17 IO (io), J17 IO (io)
part H pins: A10 IO (io), A11 IO (io), A12 IO (io), A13 IO (io), B10 IO (io), B11 IO (io), C9 IO (io), C10 IO (io), C12 IO (io), D9 IO (io)
part I pins: R6 IO (io), R7 IO (io), R8 IO (io), T5 IO (io), T6 IO (io), T7 IO (io), T8 IO (io), U6 IO (io), U7 IO (io), U8 IO (io)
part J pins: J2 IO (io), J3 IO (io), J4 IO (io), K1 IO (io), K2 IO (io), K3 IO (io), L1 IO (io), L2 IO (io), L3 IO (io), M1 IO (io)
part K pins: E2 IO (io), F1 IO (io), F3 IO (io), G1 IO (io), G2 IO (io), G3 IO (io), H1 IO (io), H2 IO (io), H3 IO (io), J1 IO (io)
part L pins: A5 IO (io), A6 IO (io), A7 IO (io), A8 IO (io), A9 IO (io), B7 IO (io), B8 IO (io), B9 IO (io), C6 IO (io), C8 IO (io)
part M pins: P4 IO (io), R2 IO (io), R3 IO (io), T3 IO (io), T4 IO (io), U1 IO (io), U2 IO (io), U3 IO (io), U4 IO (io), U5 IO (io)
part N pins: M2 IO (io), M3 IO (io), N1 IO (io), N2 IO (io), N3 IO (io), P1 IO (io), P2 IO (io), R1 IO (io), T1 IO (io), T2 IO (io)
part O pins: B1 IO (io), C1 IO (io), C2 IO (io), C3 IO (io), D1 IO (io), D2 IO (io), D3 IO (io), E1 IO (io), E3 IO (io), F2 IO (io)
part P pins: A1 IO (io), A2 IO (io), A3 IO (io), A4 IO (io), B2 IO (io), B3 IO (io), B4 IO (io), B5 IO (io), B6 IO (io), C4 IO (io)
part Q pins: P9 INPUT/GCLK1 (in), R9 INPUT/GCLRn (in), T9 INPUT/OE1 (in), U9 INPUT/OE2/GCLK2 (in)
part R pins: C5 VCCIO (3.3 V OR 5.0 V) (power), C11 VCCIO (3.3 V OR 5.0 V) (power), D7 VCCINT (5.0 V ONLY) (power), D11 VCCINT (5.0 V ONLY) (power), D14 VCCIO (3.3 V OR 5.0 V) (power), G4 VCCIO (3.3 V OR 5.0 V) (power), H14 VCCIO (3.3 V OR 5.0 V) (power), K4 VCCIO (3.3 V OR 5.0 V) (power), L14 VCCIO (3.3 V OR 5.0 V) (power), P3 VCCIO (3.3 V OR 5.0 V) (power), P7 VCCINT (5.0 V ONLY) (power), P11 VCCINT (5.0 V ONLY) (power), R5 VCCIO (3.3 V OR 5.0 V) (power), R14 VCCIO (3.3 V OR 5.0 V) (power)
part S pins: C7 GND (power), C13 GND (power), D4 GND (power), D8 GND (power), D10 GND (power), G14 GND (power), H4 GND (power), K14 GND (power), L4 GND (power), P8 GND (power), P10 GND (power), P15 GND (power), R4 GND (power), R11 GND (power)
part A text: BANK A
part B text: BANK B
part C text: BANK C
part D text: BANK D
part E text: BANK E
part F text: BANK F
part G text: BANK G
part H text: BANK H
part I text: BANK I
part J text: BANK J
part K text: BANK K
part L text: BANK L
part M text: BANK M
part N text: BANK N
part O text: BANK O
part P text: BANK P

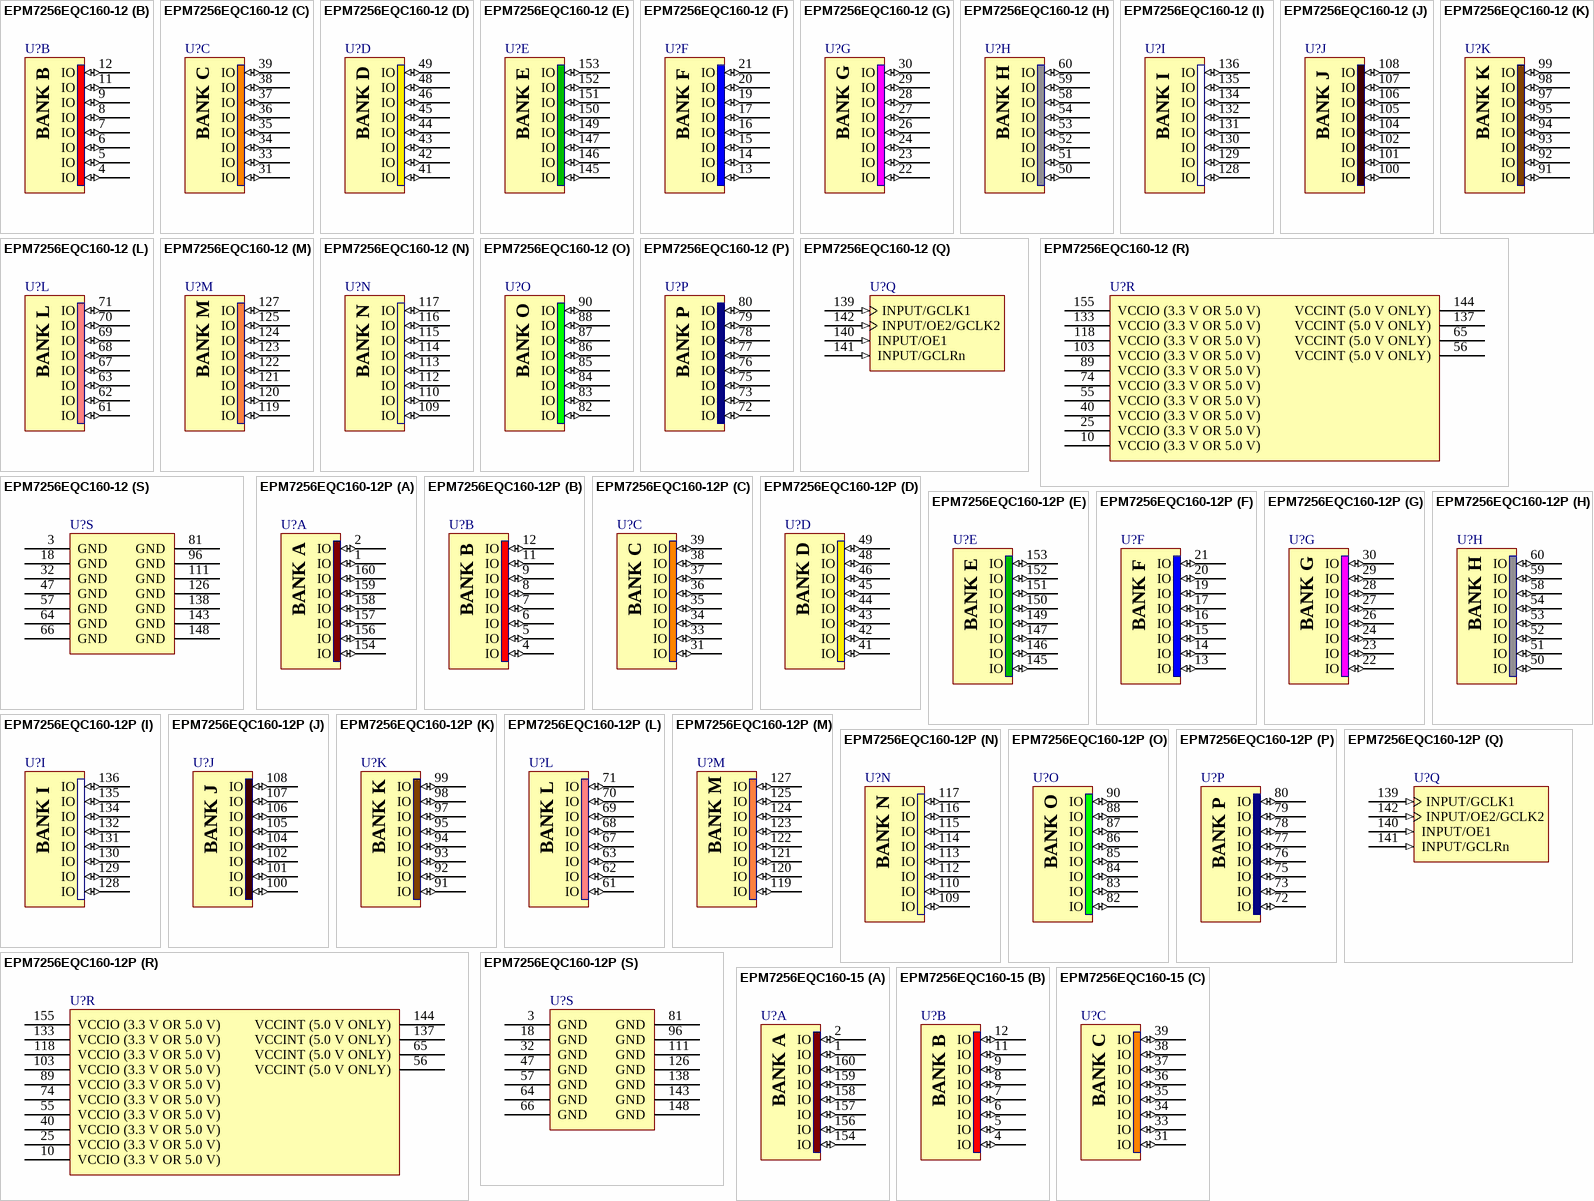
[diagram p90: symbols EPM7256EQC160-12 to EPM7256EQC160-15]